# Altium schematic symbol library FPGA_Xilinx_Spartan6.SchLib: 45 symbols (part 2 of 8)
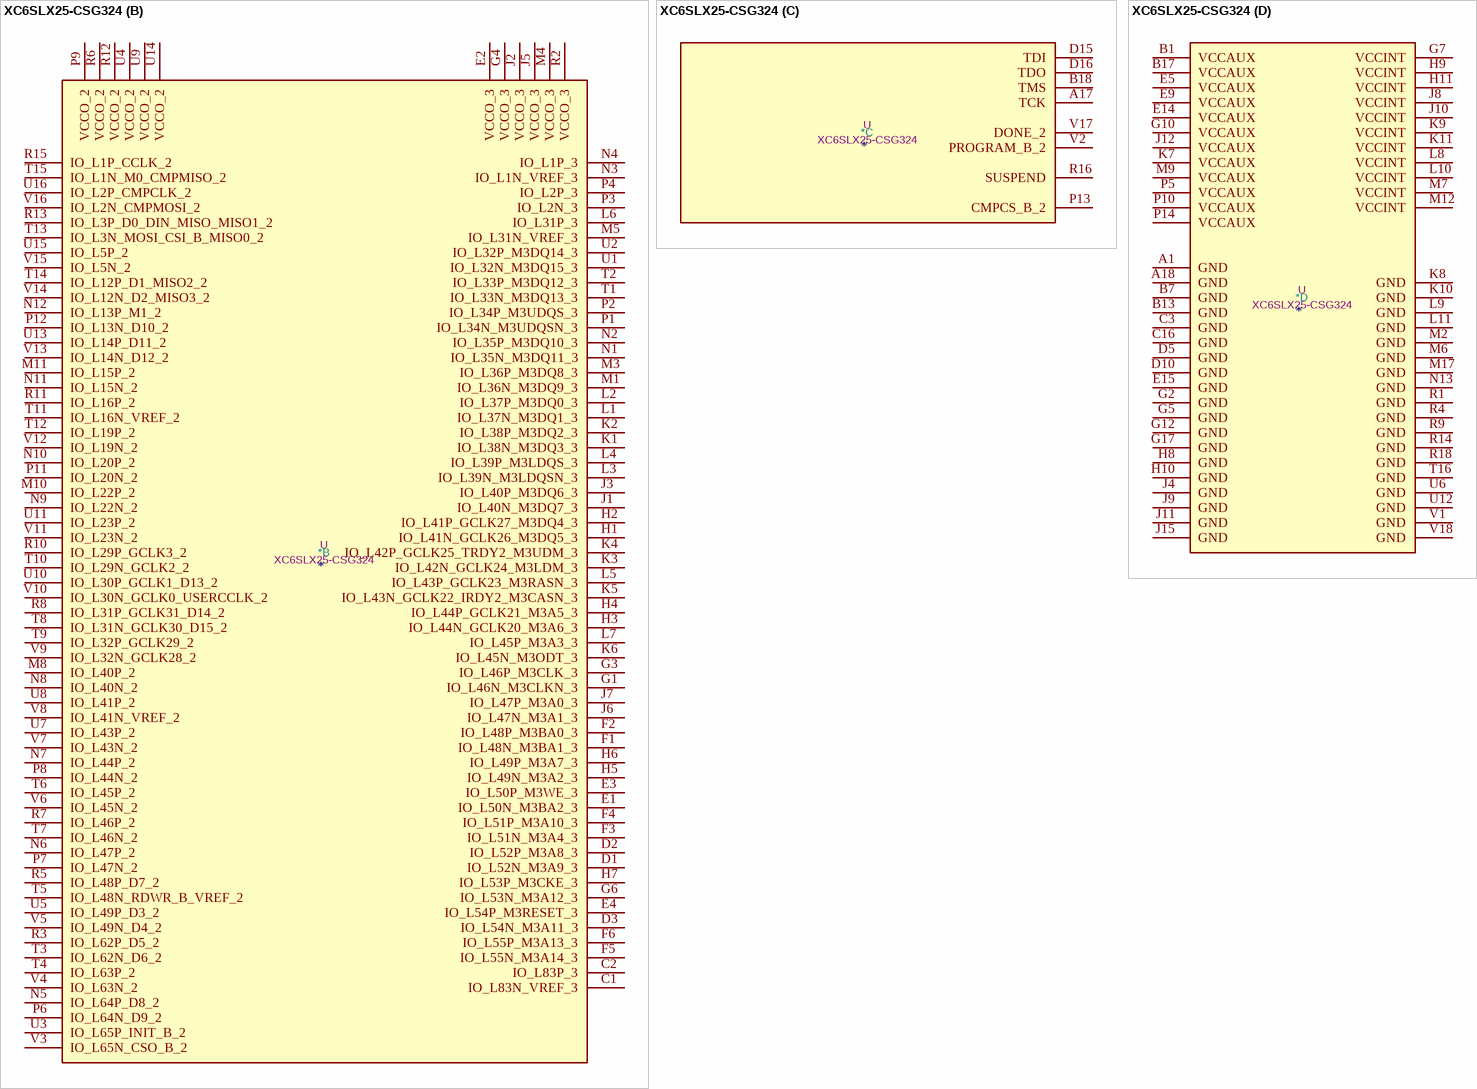
[diagram p63: symbol XC6SLX25-CSG324]

## XC6SLX25-CSG324
designator *  value XC6SLX25-CSG324  Reference: U
Spartan 6 LX 25 XC6SLX25-CSG324; ki_keywords: FPGA; Description_: Spartan 6 LX 25 XC6SLX25-CSG324
part A pins: A2 IO_L2N_0, A3 IO_L4N_0, A4 IO_L5N_0, A5 IO_L6N_0, A6 IO_L8N_VREF_0, A7 IO_L10N_0, A8 IO_L33N_0, A9 IO_L35N_GCLK16_0, A10 IO_L37N_GCLK12_0, A11 IO_L39N_0, A12 IO_L41N_0, A13 IO_L50N_0, A14 IO_L62N_VREF_0, A15 IO_L64N_SCP4_0, A16 IO_L66N_SCP0_0, B2 IO_L2P_0, B3 IO_L4P_0, B4 IO_L5P_0, B5 VCCO_0, B6 IO_L8P_0, B8 IO_L33P_0, B9 IO_L35P_GCLK17_0, B10 VCCO_0, B11 IO_L39P_0, B12 IO_L41P_0, B14 IO_L62P_0, B15 VCCO_0, B16 IO_L66P_SCP1_0, C4 IO_L1N_VREF_0, C5 IO_L6P_0, C6 IO_L3N_0, C7 IO_L10P_0, C8 IO_L11N_0, C9 IO_L34N_GCLK18_0, C10 IO_L37P_GCLK13_0, C11 IO_L36N_GCLK14_0, C12 IO_L47N_0, C13 IO_L50P_0, C14 IO_L65N_SCP2_0, C15 IO_L64P_SCP5_0, C17 IO_L29P_A23_M1A13_1, C18 IO_L29N_A22_M1A14_1, D4 IO_L1P_HSWAPEN_0, D6 IO_L3P_0, D7 VCCO_0, D8 IO_L11P_0, D9 IO_L34P_GCLK19_0, D11 IO_L36P_GCLK15_0, D12 IO_L47P_0, D13 VCCO_0, D14 IO_L65P_SCP3_0, D17 IO_L31P_A19_M1CKE_1, D18 IO_L31N_A18_M1A12_1, E10 VCCO_0, E11 IO_L42N_0, E12 IO_L51N_0, E13 IO_L63N_SCP6_0, E16 IO_L33P_A15_M1A10_1, E17 VCCO_1, E18 IO_L33N_A14_M1A4_1, F9 IO_L38N_VREF_0, F10 IO_L40N_0, F11 IO_L42P_0, F12 IO_L51P_0, F13 IO_L63P_SCP7_0, F14 IO_L30P_A21_M1RESET_1, F15 IO_L1P_A25_1, F16 IO_L1N_A24_VREF_1, F17 IO_L35P_A11_M1A7_1, F18 IO_L35N_A10_M1A2_1, G9 IO_L38P_0, G11 IO_L40P_0, G13 IO_L32N_A16_M1A9_1, G14 IO_L30N_A20_M1A11_1, G15 VCCO_1, G16 IO_L38P_A5_M1CLK_1, G18 IO_L38N_A4_M1CLKN_1, H12 IO_L32P_A17_M1A8_1, H13 IO_L36P_A9_M1BA0_1, H14 IO_L36N_A8_M1BA1_1, H15 IO_L37P_A7_M1A0_1, H16 IO_L37N_A6_M1A1_1, H17 IO_L43P_GCLK5_M1DQ4_1, H18 IO_L43N_GCLK4_M1DQ5_1, J13 IO_L39P_M1A3_1, J14 VCCO_1, J16 IO_L44P_A3_M1DQ6_1, J17 VCCO_1, J18 IO_L44N_A2_M1DQ7_1, K12 IO_L34P_A13_M1WE_1, K13 IO_L34N_A12_M1BA2_1, K14 IO_L39N_M1ODT_1, K15 IO_L41P_GCLK9_IRDY1_M1RASN_1, K16 IO_L41N_GCLK8_M1CASN_1, K17 IO_L45P_A1_M1LDQS_1, K18 IO_L45N_A0_M1LDQSN_1, L12 IO_L40P_GCLK11_M1A5_1, L13 IO_L40N_GCLK10_M1A6_1, L14 IO_L61P_1, L15 IO_L42P_GCLK7_M1UDM_1, L16 IO_L42N_GCLK6_TRDY1_M1LDM_1, L17 IO_L46P_FCS_B_M1DQ2_1, L18 IO_L46N_FOE_B_M1DQ3_1, M13 IO_L61N_1, M14 IO_L53P_1, M15 VCCO_1, M16 IO_L47P_FWE_B_M1DQ0_1, M18 IO_L47N_LDC_M1DQ1_1, N14 IO_L53N_VREF_1, N15 IO_L50P_M1UDQS_1, N16 IO_L50N_M1UDQSN_1, N17 IO_L48P_HDC_M1DQ8_1, N18 IO_L48N_M1DQ9_1, P15 IO_L74P_AWAKE_1, P16 IO_L74N_DOUT_BUSY_1, P17 IO_L49P_M1DQ10_1, P18 IO_L49N_M1DQ11_1, R17 VCCO_1, T17 IO_L51P_M1DQ12_1, T18 IO_L51N_M1DQ13_1, U17 IO_L52P_M1DQ14_1, U18 IO_L52N_M1DQ15_1
part B pins: C1 IO_L83N_VREF_3, C2 IO_L83P_3, D1 IO_L52N_M3A9_3, D2 IO_L52P_M3A8_3, D3 IO_L54N_M3A11_3, E1 IO_L50N_M3BA2_3, E2 VCCO_3, E3 IO_L50P_M3WE_3, E4 IO_L54P_M3RESET_3, F1 IO_L48N_M3BA1_3, F2 IO_L48P_M3BA0_3, F3 IO_L51N_M3A4_3, F4 IO_L51P_M3A10_3, F5 IO_L55N_M3A14_3, F6 IO_L55P_M3A13_3, G1 IO_L46N_M3CLKN_3, G3 IO_L46P_M3CLK_3, G4 VCCO_3, G6 IO_L53N_M3A12_3, H1 IO_L41N_GCLK26_M3DQ5_3, H2 IO_L41P_GCLK27_M3DQ4_3, H3 IO_L44N_GCLK20_M3A6_3, H4 IO_L44P_GCLK21_M3A5_3, H5 IO_L49N_M3A2_3, H6 IO_L49P_M3A7_3, H7 IO_L53P_M3CKE_3, J1 IO_L40N_M3DQ7_3, J2 VCCO_3, J3 IO_L40P_M3DQ6_3, J5 VCCO_3, J6 IO_L47N_M3A1_3, J7 IO_L47P_M3A0_3, K1 IO_L38N_M3DQ3_3, K2 IO_L38P_M3DQ2_3, K3 IO_L42N_GCLK24_M3LDM_3, K4 IO_L42P_GCLK25_TRDY2_M3UDM_3, K5 IO_L43N_GCLK22_IRDY2_M3CASN_3, K6 IO_L45N_M3ODT_3, L1 IO_L37N_M3DQ1_3, L2 IO_L37P_M3DQ0_3, L3 IO_L39N_M3LDQSN_3, L4 IO_L39P_M3LDQS_3, L5 IO_L43P_GCLK23_M3RASN_3, L6 IO_L31P_3, L7 IO_L45P_M3A3_3, M1 IO_L36N_M3DQ9_3, M3 IO_L36P_M3DQ8_3, M4 VCCO_3, M5 IO_L31N_VREF_3, M8 IO_L40P_2, M10 IO_L22P_2, M11 IO_L15P_2, N1 IO_L35N_M3DQ11_3, N2 IO_L35P_M3DQ10_3, N3 IO_L1N_VREF_3, N4 IO_L1P_3, N5 IO_L64P_D8_2, N6 IO_L47P_2, N7 IO_L44P_2, N8 IO_L40N_2, N9 IO_L22N_2, N10 IO_L20P_2, N11 IO_L15N_2, N12 IO_L13P_M1_2, P1 IO_L34N_M3UDQSN_3, P2 IO_L34P_M3UDQS_3, P3 IO_L2N_3, P4 IO_L2P_3, P6 IO_L64N_D9_2, P7 IO_L47N_2, P8 IO_L44N_2, P9 VCCO_2, P11 IO_L20N_2, P12 IO_L13N_D10_2, R2 VCCO_3, R3 IO_L62P_D5_2, R5 IO_L48P_D7_2, R6 VCCO_2, R7 IO_L46P_2, R8 IO_L31P_GCLK31_D14_2, R10 IO_L29P_GCLK3_2, R11 IO_L16P_2, R12 VCCO_2, R13 IO_L3P_D0_DIN_MISO_MISO1_2, R15 IO_L1P_CCLK_2, T1 IO_L33N_M3DQ13_3, T2 IO_L33P_M3DQ12_3, T3 IO_L62N_D6_2, T4 IO_L63P_2, T5 IO_L48N_RDWR_B_VREF_2, T6 IO_L45P_2, T7 IO_L46N_2, T8 IO_L31N_GCLK30_D15_2, T9 IO_L32P_GCLK29_2, T10 IO_L29N_GCLK2_2, T11 IO_L16N_VREF_2, T12 IO_L19P_2, T13 IO_L3N_MOSI_CSI_B_MISO0_2, T14 IO_L12P_D1_MISO2_2, T15 IO_L1N_M0_CMPMISO_2, U1 IO_L32N_M3DQ15_3, U2 IO_L32P_M3DQ14_3, U3 IO_L65P_INIT_B_2, U4 VCCO_2, U5 IO_L49P_D3_2, U7 IO_L43P_2, U8 IO_L41P_2, U9 VCCO_2, U10 IO_L30P_GCLK1_D13_2, U11 IO_L23P_2, U13 IO_L14P_D11_2, U14 VCCO_2, U15 IO_L5P_2, U16 IO_L2P_CMPCLK_2, V3 IO_L65N_CSO_B_2, V4 IO_L63N_2, V5 IO_L49N_D4_2, V6 IO_L45N_2, V7 IO_L43N_2, V8 IO_L41N_VREF_2, V9 IO_L32N_GCLK28_2, V10 IO_L30N_GCLK0_USERCCLK_2, V11 IO_L23N_2, V12 IO_L19N_2, V13 IO_L14N_D12_2, V14 IO_L12N_D2_MISO3_2, V15 IO_L5N_2, V16 IO_L2N_CMPMOSI_2
part C pins: A17 TCK, B18 TMS, D15 TDI, D16 TDO, P13 CMPCS_B_2, R16 SUSPEND, V2 PROGRAM_B_2, V17 DONE_2
part D pins: A1 GND, A18 GND, B1 VCCAUX, B7 GND, B13 GND, B17 VCCAUX, C3 GND, C16 GND, D5 GND, D10 GND, E5 VCCAUX, E9 VCCAUX, E14 VCCAUX, E15 GND, G2 GND, G5 GND, G7 VCCINT, G10 VCCAUX, G12 GND, G17 GND, H8 GND, H9 VCCINT, H10 GND, H11 VCCINT, J4 GND, J8 VCCINT, J9 GND, J10 VCCINT, J11 GND, J12 VCCAUX, J15 GND, K7 VCCAUX, K8 GND, K9 VCCINT, K10 GND, K11 VCCINT, L8 VCCINT, L9 GND, L10 VCCINT, L11 GND, M2 GND, M6 GND, M7 VCCINT, M9 VCCAUX, M12 VCCINT, M17 GND, N13 GND, P5 VCCAUX, P10 VCCAUX, P14 VCCAUX, R1 GND, R4 GND, R9 GND, R14 GND, R18 GND, T16 GND, U6 GND, U12 GND, V1 GND, V18 GND

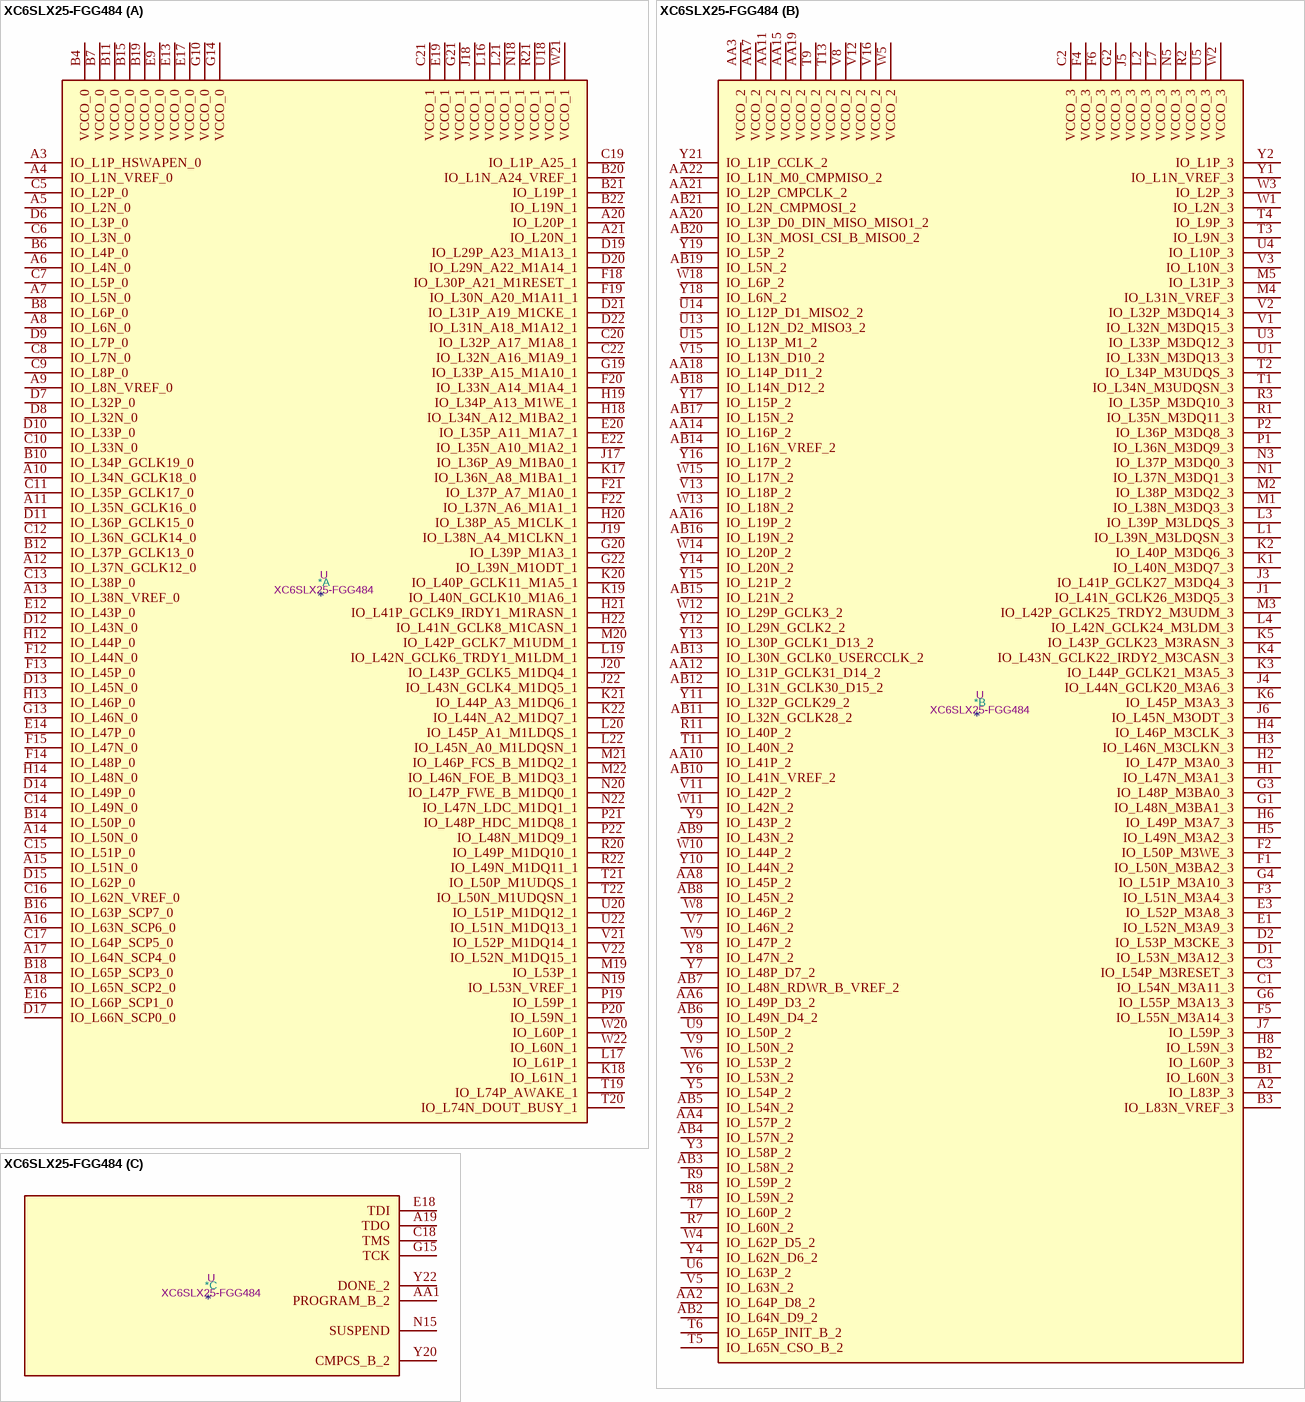
[diagram p11: symbol XC6SLX25-FGG484]

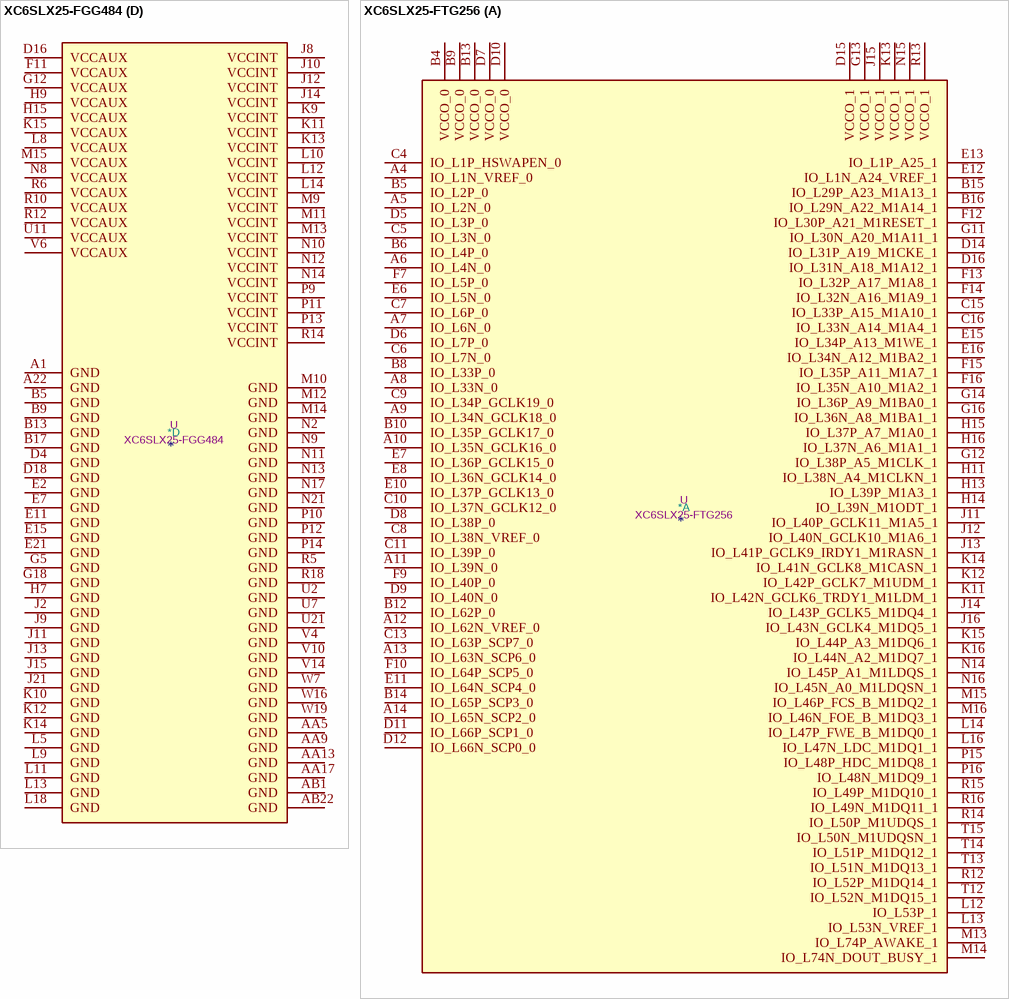
[diagram p12: symbols XC6SLX25-FGG484 to XC6SLX25-FTG256]

## XC6SLX25-FGG484
designator *  value XC6SLX25-FGG484  Reference: U
Spartan 6 LX 25 XC6SLX25-FGG484; ki_keywords: FPGA; Description_: Spartan 6 LX 25 XC6SLX25-FGG484
part A pins: A3 IO_L1P_HSWAPEN_0, A4 IO_L1N_VREF_0, A5 IO_L2N_0, A6 IO_L4N_0, A7 IO_L5N_0, A8 IO_L6N_0, A9 IO_L8N_VREF_0, A10 IO_L34N_GCLK18_0, A11 IO_L35N_GCLK16_0, A12 IO_L37N_GCLK12_0, A13 IO_L38N_VREF_0, A14 IO_L50N_0, A15 IO_L51N_0, A16 IO_L63N_SCP6_0, A17 IO_L64N_SCP4_0, A18 IO_L65N_SCP2_0, A20 IO_L20P_1, A21 IO_L20N_1, B4 VCCO_0, B6 IO_L4P_0, B7 VCCO_0, B8 IO_L6P_0, B10 IO_L34P_GCLK19_0, B11 VCCO_0, B12 IO_L37P_GCLK13_0, B14 IO_L50P_0, B15 VCCO_0, B16 IO_L63P_SCP7_0, B18 IO_L65P_SCP3_0, B19 VCCO_0, B20 IO_L1N_A24_VREF_1, B21 IO_L19P_1, B22 IO_L19N_1, C5 IO_L2P_0, C6 IO_L3N_0, C7 IO_L5P_0, C8 IO_L7N_0, C9 IO_L8P_0, C10 IO_L33N_0, C11 IO_L35P_GCLK17_0, C12 IO_L36N_GCLK14_0, C13 IO_L38P_0, C14 IO_L49N_0, C15 IO_L51P_0, C16 IO_L62N_VREF_0, C17 IO_L64P_SCP5_0, C19 IO_L1P_A25_1, C20 IO_L32P_A17_M1A8_1, C21 VCCO_1, C22 IO_L32N_A16_M1A9_1, D6 IO_L3P_0, D7 IO_L32P_0, D8 IO_L32N_0, D9 IO_L7P_0, D10 IO_L33P_0, D11 IO_L36P_GCLK15_0, D12 IO_L43N_0, D13 IO_L45N_0, D14 IO_L49P_0, D15 IO_L62P_0, D17 IO_L66N_SCP0_0, D19 IO_L29P_A23_M1A13_1, D20 IO_L29N_A22_M1A14_1, D21 IO_L31P_A19_M1CKE_1, D22 IO_L31N_A18_M1A12_1, E9 VCCO_0, E12 IO_L43P_0, E13 VCCO_0, E14 IO_L47P_0, E16 IO_L66P_SCP1_0, E17 VCCO_0, E19 VCCO_1, E20 IO_L35P_A11_M1A7_1, E22 IO_L35N_A10_M1A2_1, F12 IO_L44N_0, F13 IO_L45P_0, F14 IO_L48P_0, F15 IO_L47N_0, F18 IO_L30P_A21_M1RESET_1, F19 IO_L30N_A20_M1A11_1, F20 IO_L33N_A14_M1A4_1, F21 IO_L37P_A7_M1A0_1, F22 IO_L37N_A6_M1A1_1, G10 VCCO_0, G13 IO_L46N_0, G14 VCCO_0, G19 IO_L33P_A15_M1A10_1, G20 IO_L39P_M1A3_1, G21 VCCO_1, G22 IO_L39N_M1ODT_1, H12 IO_L44P_0, H13 IO_L46P_0, H14 IO_L48N_0, H18 IO_L34N_A12_M1BA2_1, H19 IO_L34P_A13_M1WE_1, H20 IO_L38P_A5_M1CLK_1, H21 IO_L41P_GCLK9_IRDY1_M1RASN_1, H22 IO_L41N_GCLK8_M1CASN_1, J17 IO_L36P_A9_M1BA0_1, J18 VCCO_1, J19 IO_L38N_A4_M1CLKN_1, J20 IO_L43P_GCLK5_M1DQ4_1, J22 IO_L43N_GCLK4_M1DQ5_1, K17 IO_L36N_A8_M1BA1_1, K18 IO_L61N_1, K19 IO_L40N_GCLK10_M1A6_1, K20 IO_L40P_GCLK11_M1A5_1, K21 IO_L44P_A3_M1DQ6_1, K22 IO_L44N_A2_M1DQ7_1, L16 VCCO_1, L17 IO_L61P_1, L19 IO_L42N_GCLK6_TRDY1_M1LDM_1, L20 IO_L45P_A1_M1LDQS_1, L21 VCCO_1, L22 IO_L45N_A0_M1LDQSN_1, M19 IO_L53P_1, M20 IO_L42P_GCLK7_M1UDM_1, M21 IO_L46P_FCS_B_M1DQ2_1, M22 IO_L46N_FOE_B_M1DQ3_1, N18 VCCO_1, N19 IO_L53N_VREF_1, N20 IO_L47P_FWE_B_M1DQ0_1, N22 IO_L47N_LDC_M1DQ1_1, P19 IO_L59P_1, P20 IO_L59N_1, P21 IO_L48P_HDC_M1DQ8_1, P22 IO_L48N_M1DQ9_1, R20 IO_L49P_M1DQ10_1, R21 VCCO_1, R22 IO_L49N_M1DQ11_1, T19 IO_L74P_AWAKE_1, T20 IO_L74N_DOUT_BUSY_1, T21 IO_L50P_M1UDQS_1, T22 IO_L50N_M1UDQSN_1, U18 VCCO_1, U20 IO_L51P_M1DQ12_1, U22 IO_L51N_M1DQ13_1, V21 IO_L52P_M1DQ14_1, V22 IO_L52N_M1DQ15_1, W20 IO_L60P_1, W21 VCCO_1, W22 IO_L60N_1
part B pins: A2 IO_L83P_3, AA2 IO_L64P_D8_2, AA3 VCCO_2, AA4 IO_L57P_2, AA6 IO_L49P_D3_2, AA7 VCCO_2, AA8 IO_L45P_2, AA10 IO_L41P_2, AA11 VCCO_2, AA12 IO_L31P_GCLK31_D14_2, AA14 IO_L16P_2, AA15 VCCO_2, AA16 IO_L19P_2, AA18 IO_L14P_D11_2, AA19 VCCO_2, AA20 IO_L3P_D0_DIN_MISO_MISO1_2, AA21 IO_L2P_CMPCLK_2, AA22 IO_L1N_M0_CMPMISO_2, AB2 IO_L64N_D9_2, AB3 IO_L58N_2, AB4 IO_L57N_2, AB5 IO_L54N_2, AB6 IO_L49N_D4_2, AB7 IO_L48N_RDWR_B_VREF_2, AB8 IO_L45N_2, AB9 IO_L43N_2, AB10 IO_L41N_VREF_2, AB11 IO_L32N_GCLK28_2, AB12 IO_L31N_GCLK30_D15_2, AB13 IO_L30N_GCLK0_USERCCLK_2, AB14 IO_L16N_VREF_2, AB15 IO_L21N_2, AB16 IO_L19N_2, AB17 IO_L15N_2, AB18 IO_L14N_D12_2, AB19 IO_L5N_2, AB20 IO_L3N_MOSI_CSI_B_MISO0_2, AB21 IO_L2N_CMPMOSI_2, B1 IO_L60N_3, B2 IO_L60P_3, B3 IO_L83N_VREF_3, C1 IO_L54N_M3A11_3, C2 VCCO_3, C3 IO_L54P_M3RESET_3, D1 IO_L53N_M3A12_3, D2 IO_L53P_M3CKE_3, E1 IO_L52N_M3A9_3, E3 IO_L52P_M3A8_3, F1 IO_L50N_M3BA2_3, F2 IO_L50P_M3WE_3, F3 IO_L51N_M3A4_3, F4 VCCO_3, F5 IO_L55N_M3A14_3, F6 VCCO_3, G1 IO_L48N_M3BA1_3, G2 VCCO_3, G3 IO_L48P_M3BA0_3, G4 IO_L51P_M3A10_3, G6 IO_L55P_M3A13_3, H1 IO_L47N_M3A1_3, H2 IO_L47P_M3A0_3, H3 IO_L46N_M3CLKN_3, H4 IO_L46P_M3CLK_3, H5 IO_L49N_M3A2_3, H6 IO_L49P_M3A7_3, H8 IO_L59N_3, J1 IO_L41N_GCLK26_M3DQ5_3, J3 IO_L41P_GCLK27_M3DQ4_3, J4 IO_L44N_GCLK20_M3A6_3, J5 VCCO_3, J6 IO_L45N_M3ODT_3, J7 IO_L59P_3, K1 IO_L40N_M3DQ7_3, K2 IO_L40P_M3DQ6_3, K3 IO_L44P_GCLK21_M3A5_3, K4 IO_L43N_GCLK22_IRDY2_M3CASN_3, K5 IO_L43P_GCLK23_M3RASN_3, K6 IO_L45P_M3A3_3, L1 IO_L39N_M3LDQSN_3, L2 VCCO_3, L3 IO_L39P_M3LDQS_3, L4 IO_L42N_GCLK24_M3LDM_3, L7 VCCO_3, M1 IO_L38N_M3DQ3_3, M2 IO_L38P_M3DQ2_3, M3 IO_L42P_GCLK25_TRDY2_M3UDM_3, M4 IO_L31N_VREF_3, M5 IO_L31P_3, N1 IO_L37N_M3DQ1_3, N3 IO_L37P_M3DQ0_3, N5 VCCO_3, P1 IO_L36N_M3DQ9_3, P2 IO_L36P_M3DQ8_3, R1 IO_L35N_M3DQ11_3, R2 VCCO_3, R3 IO_L35P_M3DQ10_3, R7 IO_L60N_2, R8 IO_L59N_2, R9 IO_L59P_2, R11 IO_L40P_2, T1 IO_L34N_M3UDQSN_3, T2 IO_L34P_M3UDQS_3, T3 IO_L9N_3, T4 IO_L9P_3, T5 IO_L65N_CSO_B_2, T6 IO_L65P_INIT_B_2, T7 IO_L60P_2, T9 VCCO_2, T11 IO_L40N_2, T13 VCCO_2, U1 IO_L33N_M3DQ13_3, U3 IO_L33P_M3DQ12_3, U4 IO_L10P_3, U5 VCCO_3, U6 IO_L63P_2, U9 IO_L50P_2, U13 IO_L12N_D2_MISO3_2, U14 IO_L12P_D1_MISO2_2, U15 IO_L13P_M1_2, V1 IO_L32N_M3DQ15_3, V2 IO_L32P_M3DQ14_3, V3 IO_L10N_3, V5 IO_L63N_2, V7 IO_L46N_2, V8 VCCO_2, V9 IO_L50N_2, V11 IO_L42P_2, V12 VCCO_2, V13 IO_L18P_2, V15 IO_L13N_D10_2, V16 VCCO_2, W1 IO_L2N_3, W2 VCCO_3, W3 IO_L2P_3, W4 IO_L62P_D5_2, W5 VCCO_2, W6 IO_L53P_2, W8 IO_L46P_2, W9 IO_L47P_2, W10 IO_L44P_2, W11 IO_L42N_2, W12 IO_L29P_GCLK3_2, W13 IO_L18N_2, W14 IO_L20P_2, W15 IO_L17N_2, W18 IO_L6P_2, Y1 IO_L1N_VREF_3, Y2 IO_L1P_3, Y3 IO_L58P_2, Y4 IO_L62N_D6_2, Y5 IO_L54P_2, Y6 IO_L53N_2, Y7 IO_L48P_D7_2, Y8 IO_L47N_2, Y9 IO_L43P_2, Y10 IO_L44N_2, Y11 IO_L32P_GCLK29_2, Y12 IO_L29N_GCLK2_2, Y13 IO_L30P_GCLK1_D13_2, Y14 IO_L20N_2, Y15 IO_L21P_2, Y16 IO_L17P_2, Y17 IO_L15P_2, Y18 IO_L6N_2, Y19 IO_L5P_2, Y21 IO_L1P_CCLK_2
part C pins: A19 TDO, AA1 PROGRAM_B_2, C18 TMS, E18 TDI, G15 TCK, N15 SUSPEND, Y20 CMPCS_B_2, Y22 DONE_2
part D pins: A1 GND, A22 GND, AA5 GND, AA9 GND, AA13 GND, AA17 GND, AB1 GND, AB22 GND, B5 GND, B9 GND, B13 GND, B17 GND, D4 GND, D16 VCCAUX, D18 GND, E2 GND, E7 GND, E11 GND, E15 GND, E21 GND, F11 VCCAUX, G5 GND, G12 VCCAUX, G18 GND, H7 GND, H9 VCCAUX, H15 VCCAUX, J2 GND, J8 VCCINT, J9 GND, J10 VCCINT, J11 GND, J12 VCCINT, J13 GND, J14 VCCINT, J15 GND, J21 GND, K9 VCCINT, K10 GND, K11 VCCINT, K12 GND, K13 VCCINT, K14 GND, K15 VCCAUX, L5 GND, L8 VCCAUX, L9 GND, L10 VCCINT, L11 GND, L12 VCCINT, L13 GND, L14 VCCINT, L18 GND, M9 VCCINT, M10 GND, M11 VCCINT, M12 GND, M13 VCCINT, M14 GND, M15 VCCAUX, N2 GND, N8 VCCAUX, N9 GND, N10 VCCINT, N11 GND, N12 VCCINT, N13 GND, N14 VCCINT, N17 GND, N21 GND, P9 VCCINT, P10 GND, P11 VCCINT, P12 GND, P13 VCCINT, P14 GND, R5 GND, R6 VCCAUX, R10 VCCAUX, R12 VCCAUX, R14 VCCINT, R18 GND, U2 GND, U7 GND, U11 VCCAUX, U21 GND, V4 GND, V6 VCCAUX, V10 GND, V14 GND, W7 GND, W16 GND, W19 GND

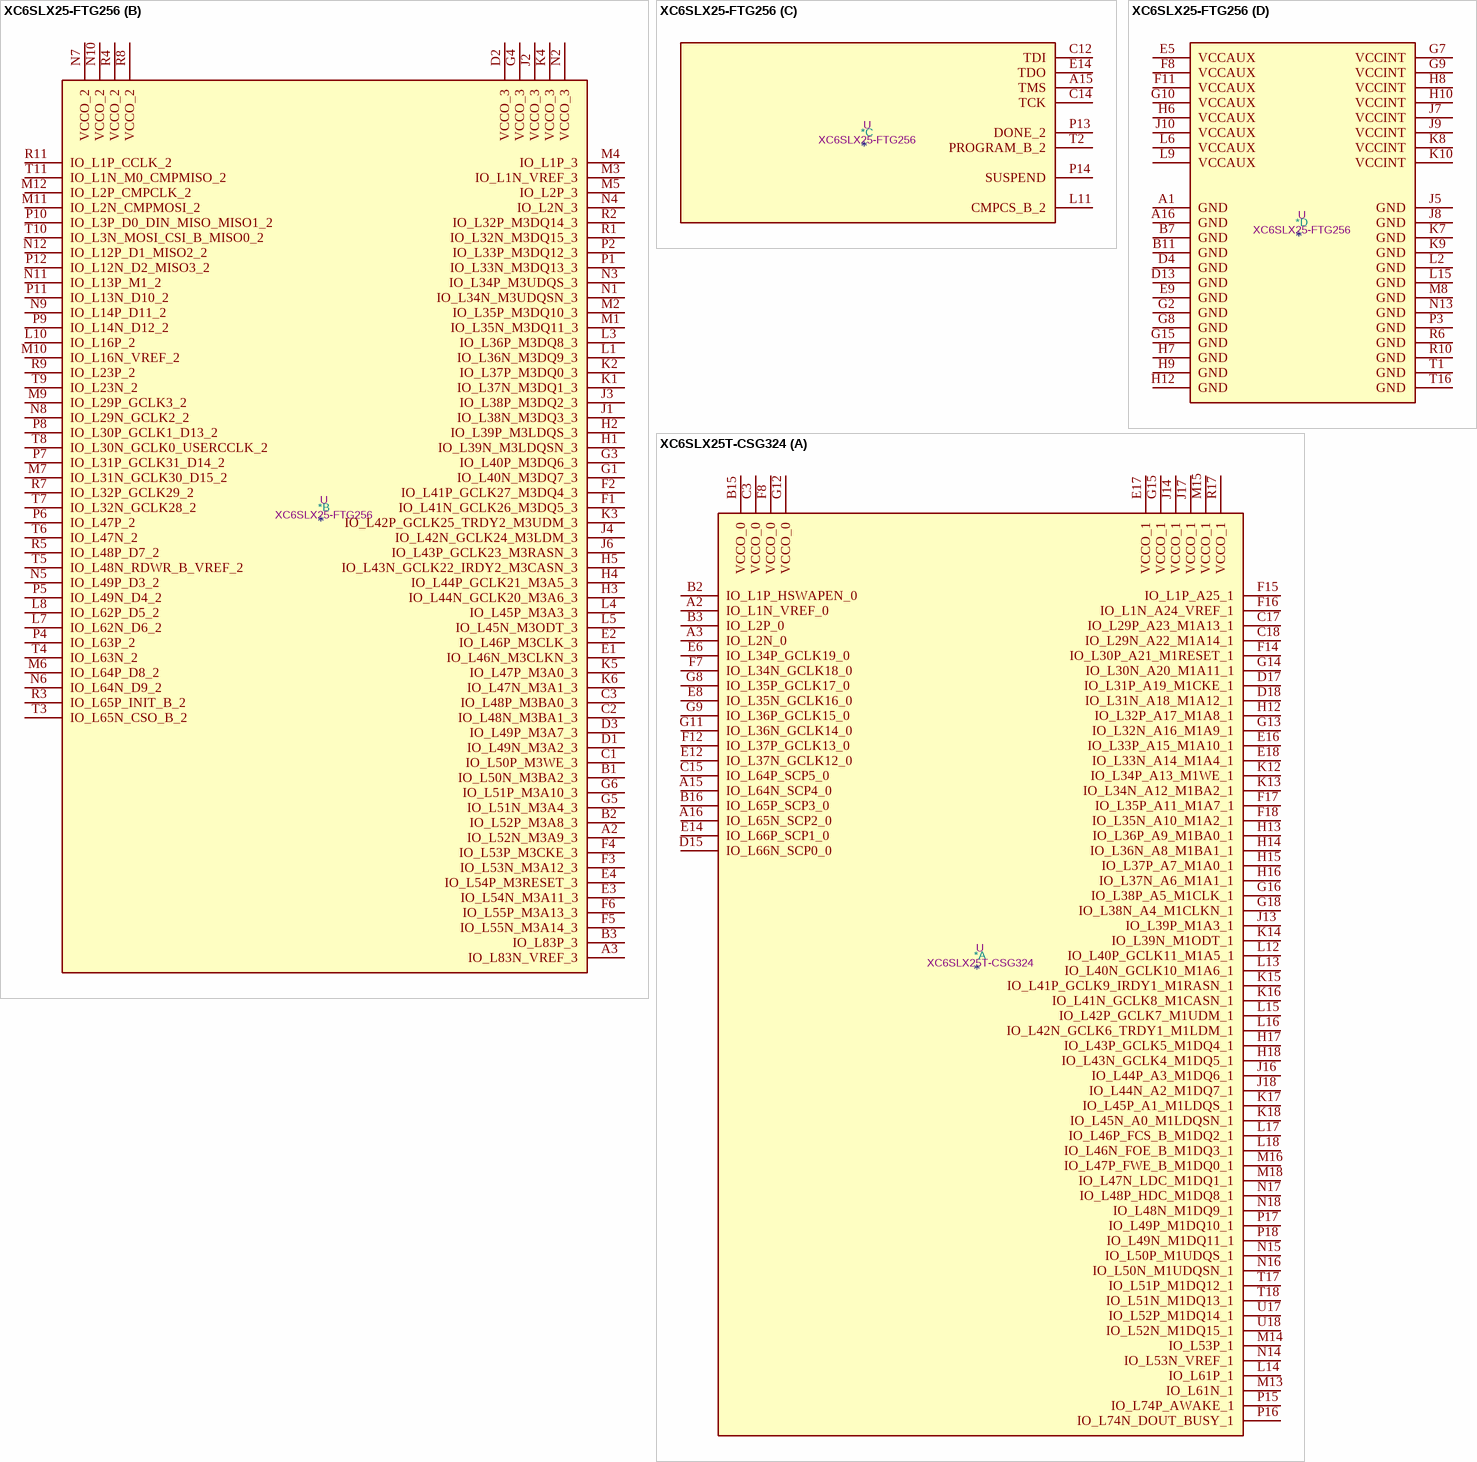
[diagram p13: symbols XC6SLX25-FTG256 to XC6SLX25T-CSG324]

## XC6SLX25-FTG256
designator *  value XC6SLX25-FTG256  Reference: U
Spartan 6 LX 25 XC6SLX25-FTG256; ki_keywords: FPGA; Description_: Spartan 6 LX 25 XC6SLX25-FTG256
part A pins: A4 IO_L1N_VREF_0, A5 IO_L2N_0, A6 IO_L4N_0, A7 IO_L6N_0, A8 IO_L33N_0, A9 IO_L34N_GCLK18_0, A10 IO_L35N_GCLK16_0, A11 IO_L39N_0, A12 IO_L62N_VREF_0, A13 IO_L63N_SCP6_0, A14 IO_L65N_SCP2_0, B4 VCCO_0, B5 IO_L2P_0, B6 IO_L4P_0, B8 IO_L33P_0, B9 VCCO_0, B10 IO_L35P_GCLK17_0, B12 IO_L62P_0, B13 VCCO_0, B14 IO_L65P_SCP3_0, B15 IO_L29P_A23_M1A13_1, B16 IO_L29N_A22_M1A14_1, C4 IO_L1P_HSWAPEN_0, C5 IO_L3N_0, C6 IO_L7N_0, C7 IO_L6P_0, C8 IO_L38N_VREF_0, C9 IO_L34P_GCLK19_0, C10 IO_L37N_GCLK12_0, C11 IO_L39P_0, C13 IO_L63P_SCP7_0, C15 IO_L33P_A15_M1A10_1, C16 IO_L33N_A14_M1A4_1, D5 IO_L3P_0, D6 IO_L7P_0, D7 VCCO_0, D8 IO_L38P_0, D9 IO_L40N_0, D10 VCCO_0, D11 IO_L66P_SCP1_0, D12 IO_L66N_SCP0_0, D14 IO_L31P_A19_M1CKE_1, D15 VCCO_1, D16 IO_L31N_A18_M1A12_1, E6 IO_L5N_0, E7 IO_L36P_GCLK15_0, E8 IO_L36N_GCLK14_0, E10 IO_L37P_GCLK13_0, E11 IO_L64N_SCP4_0, E12 IO_L1N_A24_VREF_1, E13 IO_L1P_A25_1, E15 IO_L34P_A13_M1WE_1, E16 IO_L34N_A12_M1BA2_1, F7 IO_L5P_0, F9 IO_L40P_0, F10 IO_L64P_SCP5_0, F12 IO_L30P_A21_M1RESET_1, F13 IO_L32P_A17_M1A8_1, F14 IO_L32N_A16_M1A9_1, F15 IO_L35P_A11_M1A7_1, F16 IO_L35N_A10_M1A2_1, G11 IO_L30N_A20_M1A11_1, G12 IO_L38P_A5_M1CLK_1, G13 VCCO_1, G14 IO_L36P_A9_M1BA0_1, G16 IO_L36N_A8_M1BA1_1, H11 IO_L38N_A4_M1CLKN_1, H13 IO_L39P_M1A3_1, H14 IO_L39N_M1ODT_1, H15 IO_L37P_A7_M1A0_1, H16 IO_L37N_A6_M1A1_1, J11 IO_L40P_GCLK11_M1A5_1, J12 IO_L40N_GCLK10_M1A6_1, J13 IO_L41P_GCLK9_IRDY1_M1RASN_1, J14 IO_L43P_GCLK5_M1DQ4_1, J15 VCCO_1, J16 IO_L43N_GCLK4_M1DQ5_1, K11 IO_L42N_GCLK6_TRDY1_M1LDM_1, K12 IO_L42P_GCLK7_M1UDM_1, K13 VCCO_1, K14 IO_L41N_GCLK8_M1CASN_1, K15 IO_L44P_A3_M1DQ6_1, K16 IO_L44N_A2_M1DQ7_1, L12 IO_L53P_1, L13 IO_L53N_VREF_1, L14 IO_L47P_FWE_B_M1DQ0_1, L16 IO_L47N_LDC_M1DQ1_1, M13 IO_L74P_AWAKE_1, M14 IO_L74N_DOUT_BUSY_1, M15 IO_L46P_FCS_B_M1DQ2_1, M16 IO_L46N_FOE_B_M1DQ3_1, N14 IO_L45P_A1_M1LDQS_1, N15 VCCO_1, N16 IO_L45N_A0_M1LDQSN_1, P15 IO_L48P_HDC_M1DQ8_1, P16 IO_L48N_M1DQ9_1, R12 IO_L52P_M1DQ14_1, R13 VCCO_1, R14 IO_L50P_M1UDQS_1, R15 IO_L49P_M1DQ10_1, R16 IO_L49N_M1DQ11_1, T12 IO_L52N_M1DQ15_1, T13 IO_L51N_M1DQ13_1, T14 IO_L51P_M1DQ12_1, T15 IO_L50N_M1UDQSN_1
part B pins: A2 IO_L52N_M3A9_3, A3 IO_L83N_VREF_3, B1 IO_L50N_M3BA2_3, B2 IO_L52P_M3A8_3, B3 IO_L83P_3, C1 IO_L50P_M3WE_3, C2 IO_L48N_M3BA1_3, C3 IO_L48P_M3BA0_3, D1 IO_L49N_M3A2_3, D2 VCCO_3, D3 IO_L49P_M3A7_3, E1 IO_L46N_M3CLKN_3, E2 IO_L46P_M3CLK_3, E3 IO_L54N_M3A11_3, E4 IO_L54P_M3RESET_3, F1 IO_L41N_GCLK26_M3DQ5_3, F2 IO_L41P_GCLK27_M3DQ4_3, F3 IO_L53N_M3A12_3, F4 IO_L53P_M3CKE_3, F5 IO_L55N_M3A14_3, F6 IO_L55P_M3A13_3, G1 IO_L40N_M3DQ7_3, G3 IO_L40P_M3DQ6_3, G4 VCCO_3, G5 IO_L51N_M3A4_3, G6 IO_L51P_M3A10_3, H1 IO_L39N_M3LDQSN_3, H2 IO_L39P_M3LDQS_3, H3 IO_L44N_GCLK20_M3A6_3, H4 IO_L44P_GCLK21_M3A5_3, H5 IO_L43N_GCLK22_IRDY2_M3CASN_3, J1 IO_L38N_M3DQ3_3, J2 VCCO_3, J3 IO_L38P_M3DQ2_3, J4 IO_L42N_GCLK24_M3LDM_3, J6 IO_L43P_GCLK23_M3RASN_3, K1 IO_L37N_M3DQ1_3, K2 IO_L37P_M3DQ0_3, K3 IO_L42P_GCLK25_TRDY2_M3UDM_3, K4 VCCO_3, K5 IO_L47P_M3A0_3, K6 IO_L47N_M3A1_3, L1 IO_L36N_M3DQ9_3, L3 IO_L36P_M3DQ8_3, L4 IO_L45P_M3A3_3, L5 IO_L45N_M3ODT_3, L7 IO_L62N_D6_2, L8 IO_L62P_D5_2, L10 IO_L16P_2, M1 IO_L35N_M3DQ11_3, M2 IO_L35P_M3DQ10_3, M3 IO_L1N_VREF_3, M4 IO_L1P_3, M5 IO_L2P_3, M6 IO_L64P_D8_2, M7 IO_L31N_GCLK30_D15_2, M9 IO_L29P_GCLK3_2, M10 IO_L16N_VREF_2, M11 IO_L2N_CMPMOSI_2, M12 IO_L2P_CMPCLK_2, N1 IO_L34N_M3UDQSN_3, N2 VCCO_3, N3 IO_L34P_M3UDQS_3, N4 IO_L2N_3, N5 IO_L49P_D3_2, N6 IO_L64N_D9_2, N7 VCCO_2, N8 IO_L29N_GCLK2_2, N9 IO_L14P_D11_2, N10 VCCO_2, N11 IO_L13P_M1_2, N12 IO_L12P_D1_MISO2_2, P1 IO_L33N_M3DQ13_3, P2 IO_L33P_M3DQ12_3, P4 IO_L63P_2, P5 IO_L49N_D4_2, P6 IO_L47P_2, P7 IO_L31P_GCLK31_D14_2, P8 IO_L30P_GCLK1_D13_2, P9 IO_L14N_D12_2, P10 IO_L3P_D0_DIN_MISO_MISO1_2, P11 IO_L13N_D10_2, P12 IO_L12N_D2_MISO3_2, R1 IO_L32N_M3DQ15_3, R2 IO_L32P_M3DQ14_3, R3 IO_L65P_INIT_B_2, R4 VCCO_2, R5 IO_L48P_D7_2, R7 IO_L32P_GCLK29_2, R8 VCCO_2, R9 IO_L23P_2, R11 IO_L1P_CCLK_2, T3 IO_L65N_CSO_B_2, T4 IO_L63N_2, T5 IO_L48N_RDWR_B_VREF_2, T6 IO_L47N_2, T7 IO_L32N_GCLK28_2, T8 IO_L30N_GCLK0_USERCCLK_2, T9 IO_L23N_2, T10 IO_L3N_MOSI_CSI_B_MISO0_2, T11 IO_L1N_M0_CMPMISO_2
part C pins: A15 TMS, C12 TDI, C14 TCK, E14 TDO, L11 CMPCS_B_2, P13 DONE_2, P14 SUSPEND, T2 PROGRAM_B_2
part D pins: A1 GND, A16 GND, B7 GND, B11 GND, D4 GND, D13 GND, E5 VCCAUX, E9 GND, F8 VCCAUX, F11 VCCAUX, G2 GND, G7 VCCINT, G8 GND, G9 VCCINT, G10 VCCAUX, G15 GND, H6 VCCAUX, H7 GND, H8 VCCINT, H9 GND, H10 VCCINT, H12 GND, J5 GND, J7 VCCINT, J8 GND, J9 VCCINT, J10 VCCAUX, K7 GND, K8 VCCINT, K9 GND, K10 VCCINT, L2 GND, L6 VCCAUX, L9 VCCAUX, L15 GND, M8 GND, N13 GND, P3 GND, R6 GND, R10 GND, T1 GND, T16 GND

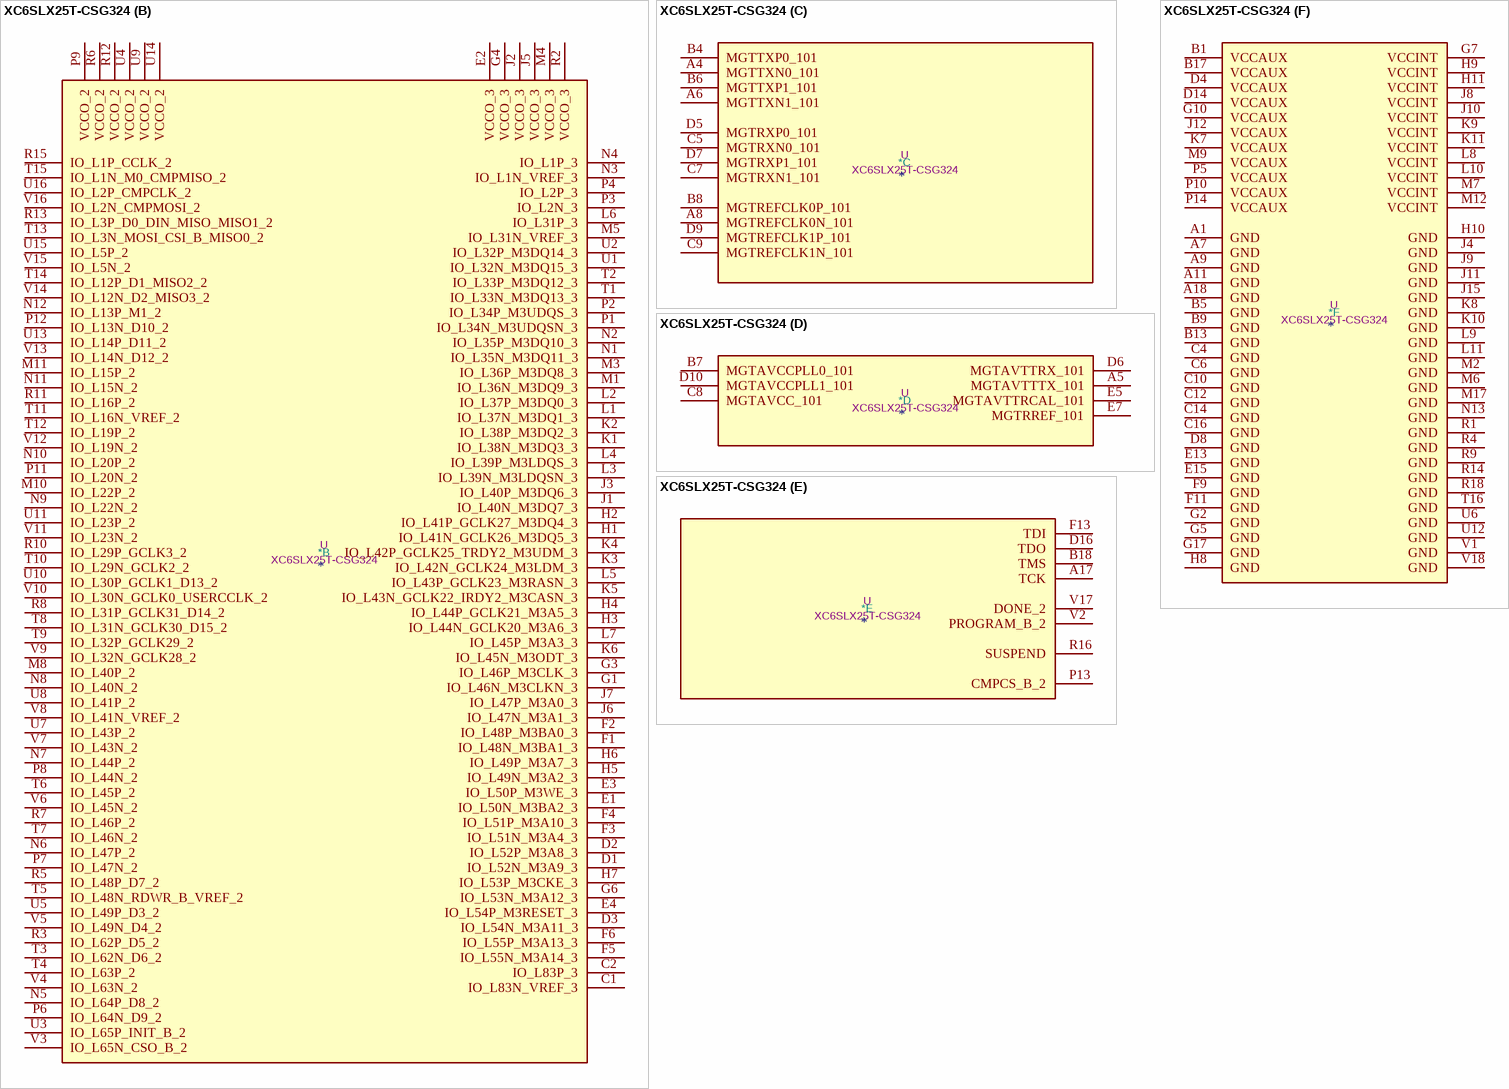
[diagram p14: symbol XC6SLX25T-CSG324]

## XC6SLX25T-CSG324
designator *  value XC6SLX25T-CSG324  Reference: U
Spartan 6 LXT 25 XC6SLX25T-CSG324; ki_keywords: FPGA; Description_: Spartan 6 LXT 25 XC6SLX25T-CSG324
part A pins: A2 IO_L1N_VREF_0, A3 IO_L2N_0, A15 IO_L64N_SCP4_0, A16 IO_L65N_SCP2_0, B2 IO_L1P_HSWAPEN_0, B3 IO_L2P_0, B15 VCCO_0, B16 IO_L65P_SCP3_0, C3 VCCO_0, C15 IO_L64P_SCP5_0, C17 IO_L29P_A23_M1A13_1, C18 IO_L29N_A22_M1A14_1, D15 IO_L66N_SCP0_0, D17 IO_L31P_A19_M1CKE_1, D18 IO_L31N_A18_M1A12_1, E6 IO_L34P_GCLK19_0, E8 IO_L35N_GCLK16_0, E12 IO_L37N_GCLK12_0, E14 IO_L66P_SCP1_0, E16 IO_L33P_A15_M1A10_1, E17 VCCO_1, E18 IO_L33N_A14_M1A4_1, F7 IO_L34N_GCLK18_0, F8 VCCO_0, F12 IO_L37P_GCLK13_0, F14 IO_L30P_A21_M1RESET_1, F15 IO_L1P_A25_1, F16 IO_L1N_A24_VREF_1, F17 IO_L35P_A11_M1A7_1, F18 IO_L35N_A10_M1A2_1, G8 IO_L35P_GCLK17_0, G9 IO_L36P_GCLK15_0, G11 IO_L36N_GCLK14_0, G12 VCCO_0, G13 IO_L32N_A16_M1A9_1, G14 IO_L30N_A20_M1A11_1, G15 VCCO_1, G16 IO_L38P_A5_M1CLK_1, G18 IO_L38N_A4_M1CLKN_1, H12 IO_L32P_A17_M1A8_1, H13 IO_L36P_A9_M1BA0_1, H14 IO_L36N_A8_M1BA1_1, H15 IO_L37P_A7_M1A0_1, H16 IO_L37N_A6_M1A1_1, H17 IO_L43P_GCLK5_M1DQ4_1, H18 IO_L43N_GCLK4_M1DQ5_1, J13 IO_L39P_M1A3_1, J14 VCCO_1, J16 IO_L44P_A3_M1DQ6_1, J17 VCCO_1, J18 IO_L44N_A2_M1DQ7_1, K12 IO_L34P_A13_M1WE_1, K13 IO_L34N_A12_M1BA2_1, K14 IO_L39N_M1ODT_1, K15 IO_L41P_GCLK9_IRDY1_M1RASN_1, K16 IO_L41N_GCLK8_M1CASN_1, K17 IO_L45P_A1_M1LDQS_1, K18 IO_L45N_A0_M1LDQSN_1, L12 IO_L40P_GCLK11_M1A5_1, L13 IO_L40N_GCLK10_M1A6_1, L14 IO_L61P_1, L15 IO_L42P_GCLK7_M1UDM_1, L16 IO_L42N_GCLK6_TRDY1_M1LDM_1, L17 IO_L46P_FCS_B_M1DQ2_1, L18 IO_L46N_FOE_B_M1DQ3_1, M13 IO_L61N_1, M14 IO_L53P_1, M15 VCCO_1, M16 IO_L47P_FWE_B_M1DQ0_1, M18 IO_L47N_LDC_M1DQ1_1, N14 IO_L53N_VREF_1, N15 IO_L50P_M1UDQS_1, N16 IO_L50N_M1UDQSN_1, N17 IO_L48P_HDC_M1DQ8_1, N18 IO_L48N_M1DQ9_1, P15 IO_L74P_AWAKE_1, P16 IO_L74N_DOUT_BUSY_1, P17 IO_L49P_M1DQ10_1, P18 IO_L49N_M1DQ11_1, R17 VCCO_1, T17 IO_L51P_M1DQ12_1, T18 IO_L51N_M1DQ13_1, U17 IO_L52P_M1DQ14_1, U18 IO_L52N_M1DQ15_1
part B pins: C1 IO_L83N_VREF_3, C2 IO_L83P_3, D1 IO_L52N_M3A9_3, D2 IO_L52P_M3A8_3, D3 IO_L54N_M3A11_3, E1 IO_L50N_M3BA2_3, E2 VCCO_3, E3 IO_L50P_M3WE_3, E4 IO_L54P_M3RESET_3, F1 IO_L48N_M3BA1_3, F2 IO_L48P_M3BA0_3, F3 IO_L51N_M3A4_3, F4 IO_L51P_M3A10_3, F5 IO_L55N_M3A14_3, F6 IO_L55P_M3A13_3, G1 IO_L46N_M3CLKN_3, G3 IO_L46P_M3CLK_3, G4 VCCO_3, G6 IO_L53N_M3A12_3, H1 IO_L41N_GCLK26_M3DQ5_3, H2 IO_L41P_GCLK27_M3DQ4_3, H3 IO_L44N_GCLK20_M3A6_3, H4 IO_L44P_GCLK21_M3A5_3, H5 IO_L49N_M3A2_3, H6 IO_L49P_M3A7_3, H7 IO_L53P_M3CKE_3, J1 IO_L40N_M3DQ7_3, J2 VCCO_3, J3 IO_L40P_M3DQ6_3, J5 VCCO_3, J6 IO_L47N_M3A1_3, J7 IO_L47P_M3A0_3, K1 IO_L38N_M3DQ3_3, K2 IO_L38P_M3DQ2_3, K3 IO_L42N_GCLK24_M3LDM_3, K4 IO_L42P_GCLK25_TRDY2_M3UDM_3, K5 IO_L43N_GCLK22_IRDY2_M3CASN_3, K6 IO_L45N_M3ODT_3, L1 IO_L37N_M3DQ1_3, L2 IO_L37P_M3DQ0_3, L3 IO_L39N_M3LDQSN_3, L4 IO_L39P_M3LDQS_3, L5 IO_L43P_GCLK23_M3RASN_3, L6 IO_L31P_3, L7 IO_L45P_M3A3_3, M1 IO_L36N_M3DQ9_3, M3 IO_L36P_M3DQ8_3, M4 VCCO_3, M5 IO_L31N_VREF_3, M8 IO_L40P_2, M10 IO_L22P_2, M11 IO_L15P_2, N1 IO_L35N_M3DQ11_3, N2 IO_L35P_M3DQ10_3, N3 IO_L1N_VREF_3, N4 IO_L1P_3, N5 IO_L64P_D8_2, N6 IO_L47P_2, N7 IO_L44P_2, N8 IO_L40N_2, N9 IO_L22N_2, N10 IO_L20P_2, N11 IO_L15N_2, N12 IO_L13P_M1_2, P1 IO_L34N_M3UDQSN_3, P2 IO_L34P_M3UDQS_3, P3 IO_L2N_3, P4 IO_L2P_3, P6 IO_L64N_D9_2, P7 IO_L47N_2, P8 IO_L44N_2, P9 VCCO_2, P11 IO_L20N_2, P12 IO_L13N_D10_2, R2 VCCO_3, R3 IO_L62P_D5_2, R5 IO_L48P_D7_2, R6 VCCO_2, R7 IO_L46P_2, R8 IO_L31P_GCLK31_D14_2, R10 IO_L29P_GCLK3_2, R11 IO_L16P_2, R12 VCCO_2, R13 IO_L3P_D0_DIN_MISO_MISO1_2, R15 IO_L1P_CCLK_2, T1 IO_L33N_M3DQ13_3, T2 IO_L33P_M3DQ12_3, T3 IO_L62N_D6_2, T4 IO_L63P_2, T5 IO_L48N_RDWR_B_VREF_2, T6 IO_L45P_2, T7 IO_L46N_2, T8 IO_L31N_GCLK30_D15_2, T9 IO_L32P_GCLK29_2, T10 IO_L29N_GCLK2_2, T11 IO_L16N_VREF_2, T12 IO_L19P_2, T13 IO_L3N_MOSI_CSI_B_MISO0_2, T14 IO_L12P_D1_MISO2_2, T15 IO_L1N_M0_CMPMISO_2, U1 IO_L32N_M3DQ15_3, U2 IO_L32P_M3DQ14_3, U3 IO_L65P_INIT_B_2, U4 VCCO_2, U5 IO_L49P_D3_2, U7 IO_L43P_2, U8 IO_L41P_2, U9 VCCO_2, U10 IO_L30P_GCLK1_D13_2, U11 IO_L23P_2, U13 IO_L14P_D11_2, U14 VCCO_2, U15 IO_L5P_2, U16 IO_L2P_CMPCLK_2, V3 IO_L65N_CSO_B_2, V4 IO_L63N_2, V5 IO_L49N_D4_2, V6 IO_L45N_2, V7 IO_L43N_2, V8 IO_L41N_VREF_2, V9 IO_L32N_GCLK28_2, V10 IO_L30N_GCLK0_USERCCLK_2, V11 IO_L23N_2, V12 IO_L19N_2, V13 IO_L14N_D12_2, V14 IO_L12N_D2_MISO3_2, V15 IO_L5N_2, V16 IO_L2N_CMPMOSI_2
part C pins: A4 MGTTXN0_101, A6 MGTTXN1_101, A8 MGTREFCLK0N_101, B4 MGTTXP0_101, B6 MGTTXP1_101, B8 MGTREFCLK0P_101, C5 MGTRXN0_101, C7 MGTRXN1_101, C9 MGTREFCLK1N_101, D5 MGTRXP0_101, D7 MGTRXP1_101, D9 MGTREFCLK1P_101
part D pins: A5 MGTAVTTTX_101, B7 MGTAVCCPLL0_101, C8 MGTAVCC_101, D6 MGTAVTTRX_101, D10 MGTAVCCPLL1_101, E5 MGTAVTTRCAL_101, E7 MGTRREF_101
part E pins: A17 TCK, B18 TMS, D16 TDO, F13 TDI, P13 CMPCS_B_2, R16 SUSPEND, V2 PROGRAM_B_2, V17 DONE_2
part F pins: A1 GND, A7 GND, A9 GND, A11 GND, A18 GND, B1 VCCAUX, B5 GND, B9 GND, B13 GND, B17 VCCAUX, C4 GND, C6 GND, C10 GND, C12 GND, C14 GND, C16 GND, D4 VCCAUX, D8 GND, D14 VCCAUX, E13 GND, E15 GND, F9 GND, F11 GND, G2 GND, G5 GND, G7 VCCINT, G10 VCCAUX, G17 GND, H8 GND, H9 VCCINT, H10 GND, H11 VCCINT, J4 GND, J8 VCCINT, J9 GND, J10 VCCINT, J11 GND, J12 VCCAUX, J15 GND, K7 VCCAUX, K8 GND, K9 VCCINT, K10 GND, K11 VCCINT, L8 VCCINT, L9 GND, L10 VCCINT, L11 GND, M2 GND, M6 GND, M7 VCCINT, M9 VCCAUX, M12 VCCINT, M17 GND, N13 GND, P5 VCCAUX, P10 VCCAUX, P14 VCCAUX, R1 GND, R4 GND, R9 GND, R14 GND, R18 GND, T16 GND, U6 GND, U12 GND, V1 GND, V18 GND

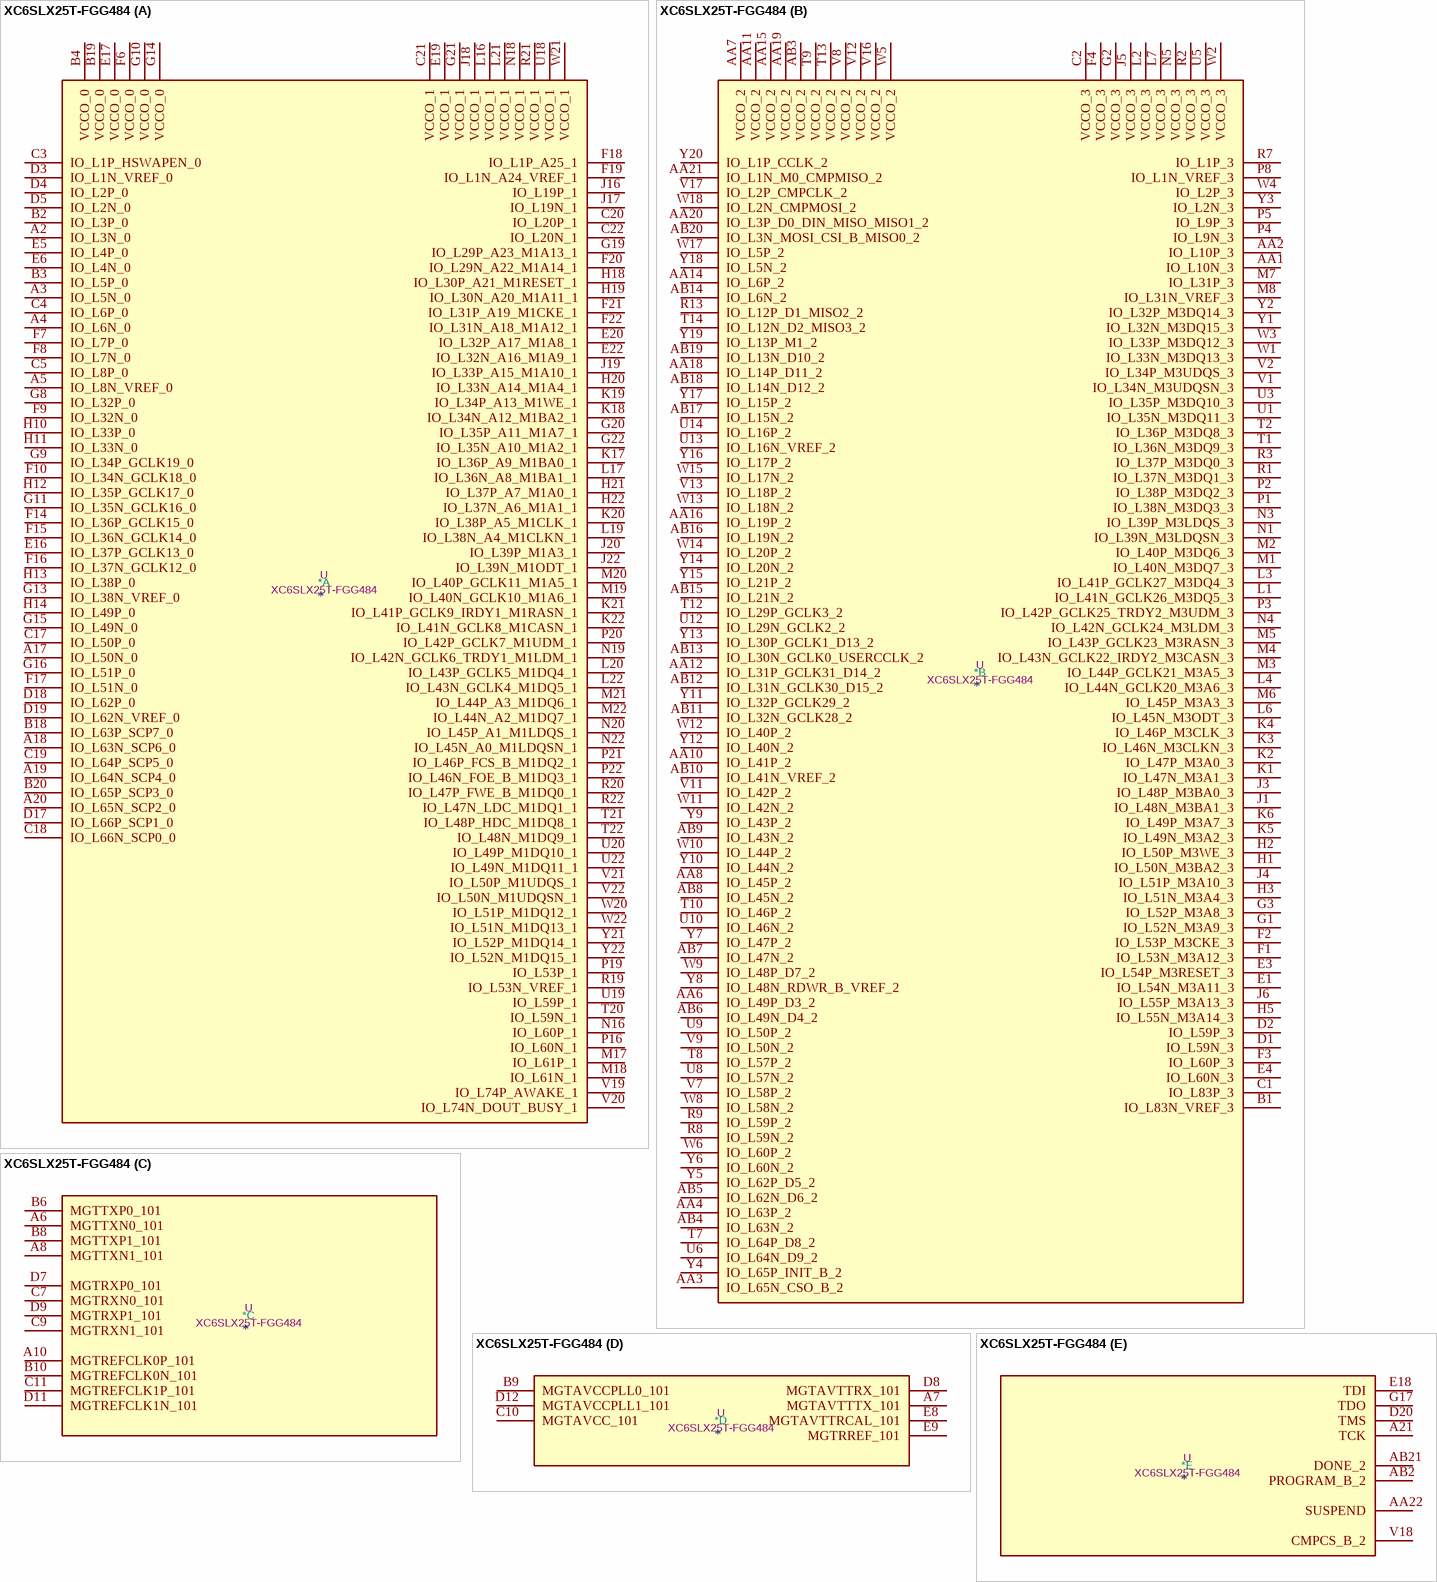
[diagram p15: symbol XC6SLX25T-FGG484]

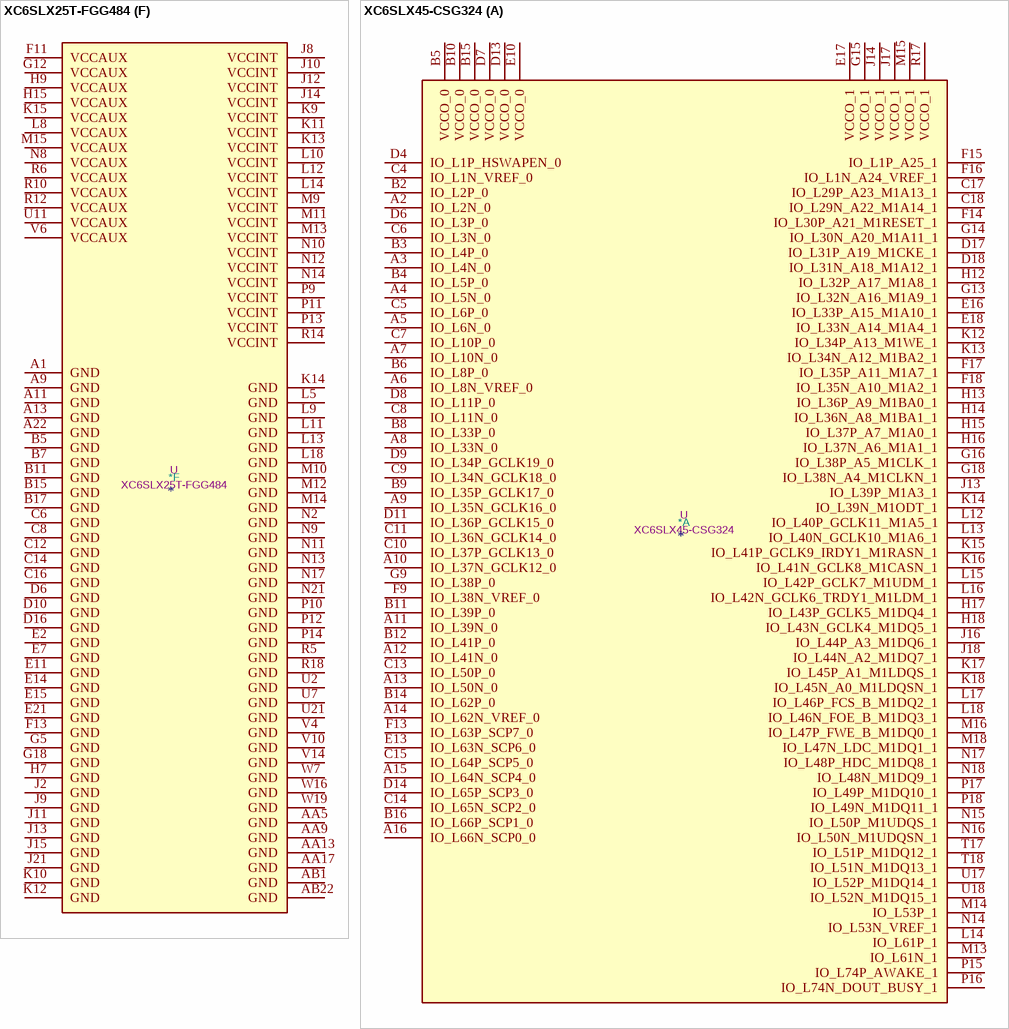
[diagram p16: symbols XC6SLX25T-FGG484 to XC6SLX45-CSG324]

## XC6SLX25T-FGG484
designator *  value XC6SLX25T-FGG484  Reference: U
Spartan 6 LXT 25 XC6SLX25T-FGG484; ki_keywords: FPGA; Description_: Spartan 6 LXT 25 XC6SLX25T-FGG484
part A pins: A2 IO_L3N_0, A3 IO_L5N_0, A4 IO_L6N_0, A5 IO_L8N_VREF_0, A17 IO_L50N_0, A18 IO_L63N_SCP6_0, A19 IO_L64N_SCP4_0, A20 IO_L65N_SCP2_0, B2 IO_L3P_0, B3 IO_L5P_0, B4 VCCO_0, B18 IO_L63P_SCP7_0, B19 VCCO_0, B20 IO_L65P_SCP3_0, C3 IO_L1P_HSWAPEN_0, C4 IO_L6P_0, C5 IO_L8P_0, C17 IO_L50P_0, C18 IO_L66N_SCP0_0, C19 IO_L64P_SCP5_0, C20 IO_L20P_1, C21 VCCO_1, C22 IO_L20N_1, D3 IO_L1N_VREF_0, D4 IO_L2P_0, D5 IO_L2N_0, D17 IO_L66P_SCP1_0, D18 IO_L62P_0, D19 IO_L62N_VREF_0, E5 IO_L4P_0, E6 IO_L4N_0, E16 IO_L37P_GCLK13_0, E17 VCCO_0, E19 VCCO_1, E20 IO_L32P_A17_M1A8_1, E22 IO_L32N_A16_M1A9_1, F6 VCCO_0, F7 IO_L7P_0, F8 IO_L7N_0, F9 IO_L32N_0, F10 IO_L34N_GCLK18_0, F14 IO_L36P_GCLK15_0, F15 IO_L36N_GCLK14_0, F16 IO_L37N_GCLK12_0, F17 IO_L51N_0, F18 IO_L1P_A25_1, F19 IO_L1N_A24_VREF_1, F20 IO_L29N_A22_M1A14_1, F21 IO_L31P_A19_M1CKE_1, F22 IO_L31N_A18_M1A12_1, G8 IO_L32P_0, G9 IO_L34P_GCLK19_0, G10 VCCO_0, G11 IO_L35N_GCLK16_0, G13 IO_L38N_VREF_0, G14 VCCO_0, G15 IO_L49N_0, G16 IO_L51P_0, G19 IO_L29P_A23_M1A13_1, G20 IO_L35P_A11_M1A7_1, G21 VCCO_1, G22 IO_L35N_A10_M1A2_1, H10 IO_L33P_0, H11 IO_L33N_0, H12 IO_L35P_GCLK17_0, H13 IO_L38P_0, H14 IO_L49P_0, H18 IO_L30P_A21_M1RESET_1, H19 IO_L30N_A20_M1A11_1, H20 IO_L33N_A14_M1A4_1, H21 IO_L37P_A7_M1A0_1, H22 IO_L37N_A6_M1A1_1, J16 IO_L19P_1, J17 IO_L19N_1, J18 VCCO_1, J19 IO_L33P_A15_M1A10_1, J20 IO_L39P_M1A3_1, J22 IO_L39N_M1ODT_1, K17 IO_L36P_A9_M1BA0_1, K18 IO_L34N_A12_M1BA2_1, K19 IO_L34P_A13_M1WE_1, K20 IO_L38P_A5_M1CLK_1, K21 IO_L41P_GCLK9_IRDY1_M1RASN_1, K22 IO_L41N_GCLK8_M1CASN_1, L16 VCCO_1, L17 IO_L36N_A8_M1BA1_1, L19 IO_L38N_A4_M1CLKN_1, L20 IO_L43P_GCLK5_M1DQ4_1, L21 VCCO_1, L22 IO_L43N_GCLK4_M1DQ5_1, M17 IO_L61P_1, M18 IO_L61N_1, M19 IO_L40N_GCLK10_M1A6_1, M20 IO_L40P_GCLK11_M1A5_1, M21 IO_L44P_A3_M1DQ6_1, M22 IO_L44N_A2_M1DQ7_1, N16 IO_L60P_1, N18 VCCO_1, N19 IO_L42N_GCLK6_TRDY1_M1LDM_1, N20 IO_L45P_A1_M1LDQS_1, N22 IO_L45N_A0_M1LDQSN_1, P16 IO_L60N_1, P19 IO_L53P_1, P20 IO_L42P_GCLK7_M1UDM_1, P21 IO_L46P_FCS_B_M1DQ2_1, P22 IO_L46N_FOE_B_M1DQ3_1, R19 IO_L53N_VREF_1, R20 IO_L47P_FWE_B_M1DQ0_1, R21 VCCO_1, R22 IO_L47N_LDC_M1DQ1_1, T20 IO_L59N_1, T21 IO_L48P_HDC_M1DQ8_1, T22 IO_L48N_M1DQ9_1, U18 VCCO_1, U19 IO_L59P_1, U20 IO_L49P_M1DQ10_1, U22 IO_L49N_M1DQ11_1, V19 IO_L74P_AWAKE_1, V20 IO_L74N_DOUT_BUSY_1, V21 IO_L50P_M1UDQS_1, V22 IO_L50N_M1UDQSN_1, W20 IO_L51P_M1DQ12_1, W21 VCCO_1, W22 IO_L51N_M1DQ13_1, Y21 IO_L52P_M1DQ14_1, Y22 IO_L52N_M1DQ15_1
part B pins: AA1 IO_L10N_3, AA2 IO_L10P_3, AA3 IO_L65N_CSO_B_2, AA4 IO_L63P_2, AA6 IO_L49P_D3_2, AA7 VCCO_2, AA8 IO_L45P_2, AA10 IO_L41P_2, AA11 VCCO_2, AA12 IO_L31P_GCLK31_D14_2, AA14 IO_L6P_2, AA15 VCCO_2, AA16 IO_L19P_2, AA18 IO_L14P_D11_2, AA19 VCCO_2, AA20 IO_L3P_D0_DIN_MISO_MISO1_2, AA21 IO_L1N_M0_CMPMISO_2, AB3 VCCO_2, AB4 IO_L63N_2, AB5 IO_L62N_D6_2, AB6 IO_L49N_D4_2, AB7 IO_L47N_2, AB8 IO_L45N_2, AB9 IO_L43N_2, AB10 IO_L41N_VREF_2, AB11 IO_L32N_GCLK28_2, AB12 IO_L31N_GCLK30_D15_2, AB13 IO_L30N_GCLK0_USERCCLK_2, AB14 IO_L6N_2, AB15 IO_L21N_2, AB16 IO_L19N_2, AB17 IO_L15N_2, AB18 IO_L14N_D12_2, AB19 IO_L13N_D10_2, AB20 IO_L3N_MOSI_CSI_B_MISO0_2, B1 IO_L83N_VREF_3, C1 IO_L83P_3, C2 VCCO_3, D1 IO_L59N_3, D2 IO_L59P_3, E1 IO_L54N_M3A11_3, E3 IO_L54P_M3RESET_3, E4 IO_L60N_3, F1 IO_L53N_M3A12_3, F2 IO_L53P_M3CKE_3, F3 IO_L60P_3, F4 VCCO_3, G1 IO_L52N_M3A9_3, G2 VCCO_3, G3 IO_L52P_M3A8_3, H1 IO_L50N_M3BA2_3, H2 IO_L50P_M3WE_3, H3 IO_L51N_M3A4_3, H5 IO_L55N_M3A14_3, J1 IO_L48N_M3BA1_3, J3 IO_L48P_M3BA0_3, J4 IO_L51P_M3A10_3, J5 VCCO_3, J6 IO_L55P_M3A13_3, K1 IO_L47N_M3A1_3, K2 IO_L47P_M3A0_3, K3 IO_L46N_M3CLKN_3, K4 IO_L46P_M3CLK_3, K5 IO_L49N_M3A2_3, K6 IO_L49P_M3A7_3, L1 IO_L41N_GCLK26_M3DQ5_3, L2 VCCO_3, L3 IO_L41P_GCLK27_M3DQ4_3, L4 IO_L44N_GCLK20_M3A6_3, L6 IO_L45N_M3ODT_3, L7 VCCO_3, M1 IO_L40N_M3DQ7_3, M2 IO_L40P_M3DQ6_3, M3 IO_L44P_GCLK21_M3A5_3, M4 IO_L43N_GCLK22_IRDY2_M3CASN_3, M5 IO_L43P_GCLK23_M3RASN_3, M6 IO_L45P_M3A3_3, M7 IO_L31P_3, M8 IO_L31N_VREF_3, N1 IO_L39N_M3LDQSN_3, N3 IO_L39P_M3LDQS_3, N4 IO_L42N_GCLK24_M3LDM_3, N5 VCCO_3, P1 IO_L38N_M3DQ3_3, P2 IO_L38P_M3DQ2_3, P3 IO_L42P_GCLK25_TRDY2_M3UDM_3, P4 IO_L9N_3, P5 IO_L9P_3, P8 IO_L1N_VREF_3, R1 IO_L37N_M3DQ1_3, R2 VCCO_3, R3 IO_L37P_M3DQ0_3, R7 IO_L1P_3, R8 IO_L59N_2, R9 IO_L59P_2, R13 IO_L12P_D1_MISO2_2, T1 IO_L36N_M3DQ9_3, T2 IO_L36P_M3DQ8_3, T7 IO_L64P_D8_2, T8 IO_L57P_2, T9 VCCO_2, T10 IO_L46P_2, T12 IO_L29P_GCLK3_2, T13 VCCO_2, T14 IO_L12N_D2_MISO3_2, U1 IO_L35N_M3DQ11_3, U3 IO_L35P_M3DQ10_3, U5 VCCO_3, U6 IO_L64N_D9_2, U8 IO_L57N_2, U9 IO_L50P_2, U10 IO_L46N_2, U12 IO_L29N_GCLK2_2, U13 IO_L16N_VREF_2, U14 IO_L16P_2, V1 IO_L34N_M3UDQSN_3, V2 IO_L34P_M3UDQS_3, V7 IO_L58P_2, V8 VCCO_2, V9 IO_L50N_2, V11 IO_L42P_2, V12 VCCO_2, V13 IO_L18P_2, V16 VCCO_2, V17 IO_L2P_CMPCLK_2, W1 IO_L33N_M3DQ13_3, W2 VCCO_3, W3 IO_L33P_M3DQ12_3, W4 IO_L2P_3, W5 VCCO_2, W6 IO_L60P_2, W8 IO_L58N_2, W9 IO_L48P_D7_2, W10 IO_L44P_2, W11 IO_L42N_2, W12 IO_L40P_2, W13 IO_L18N_2, W14 IO_L20P_2, W15 IO_L17N_2, W17 IO_L5P_2, W18 IO_L2N_CMPMOSI_2, Y1 IO_L32N_M3DQ15_3, Y2 IO_L32P_M3DQ14_3, Y3 IO_L2N_3, Y4 IO_L65P_INIT_B_2, Y5 IO_L62P_D5_2, Y6 IO_L60N_2, Y7 IO_L47P_2, Y8 IO_L48N_RDWR_B_VREF_2, Y9 IO_L43P_2, Y10 IO_L44N_2, Y11 IO_L32P_GCLK29_2, Y12 IO_L40N_2, Y13 IO_L30P_GCLK1_D13_2, Y14 IO_L20N_2, Y15 IO_L21P_2, Y16 IO_L17P_2, Y17 IO_L15P_2, Y18 IO_L5N_2, Y19 IO_L13P_M1_2, Y20 IO_L1P_CCLK_2
part C pins: A6 MGTTXN0_101, A8 MGTTXN1_101, A10 MGTREFCLK0P_101, B6 MGTTXP0_101, B8 MGTTXP1_101, B10 MGTREFCLK0N_101, C7 MGTRXN0_101, C9 MGTRXN1_101, C11 MGTREFCLK1P_101, D7 MGTRXP0_101, D9 MGTRXP1_101, D11 MGTREFCLK1N_101
part D pins: A7 MGTAVTTTX_101, B9 MGTAVCCPLL0_101, C10 MGTAVCC_101, D8 MGTAVTTRX_101, D12 MGTAVCCPLL1_101, E8 MGTAVTTRCAL_101, E9 MGTRREF_101
part E pins: A21 TCK, AA22 SUSPEND, AB2 PROGRAM_B_2, AB21 DONE_2, D20 TMS, E18 TDI, G17 TDO, V18 CMPCS_B_2
part F pins: A1 GND, A9 GND, A11 GND, A13 GND, A22 GND, AA5 GND, AA9 GND, AA13 GND, AA17 GND, AB1 GND, AB22 GND, B5 GND, B7 GND, B11 GND, B15 GND, B17 GND, C6 GND, C8 GND, C12 GND, C14 GND, C16 GND, D6 GND, D10 GND, D16 GND, E2 GND, E7 GND, E11 GND, E14 GND, E15 GND, E21 GND, F11 VCCAUX, F13 GND, G5 GND, G12 VCCAUX, G18 GND, H7 GND, H9 VCCAUX, H15 VCCAUX, J2 GND, J8 VCCINT, J9 GND, J10 VCCINT, J11 GND, J12 VCCINT, J13 GND, J14 VCCINT, J15 GND, J21 GND, K9 VCCINT, K10 GND, K11 VCCINT, K12 GND, K13 VCCINT, K14 GND, K15 VCCAUX, L5 GND, L8 VCCAUX, L9 GND, L10 VCCINT, L11 GND, L12 VCCINT, L13 GND, L14 VCCINT, L18 GND, M9 VCCINT, M10 GND, M11 VCCINT, M12 GND, M13 VCCINT, M14 GND, M15 VCCAUX, N2 GND, N8 VCCAUX, N9 GND, N10 VCCINT, N11 GND, N12 VCCINT, N13 GND, N14 VCCINT, N17 GND, N21 GND, P9 VCCINT, P10 GND, P11 VCCINT, P12 GND, P13 VCCINT, P14 GND, R5 GND, R6 VCCAUX, R10 VCCAUX, R12 VCCAUX, R14 VCCINT, R18 GND, U2 GND, U7 GND, U11 VCCAUX, U21 GND, V4 GND, V6 VCCAUX, V10 GND, V14 GND, W7 GND, W16 GND, W19 GND

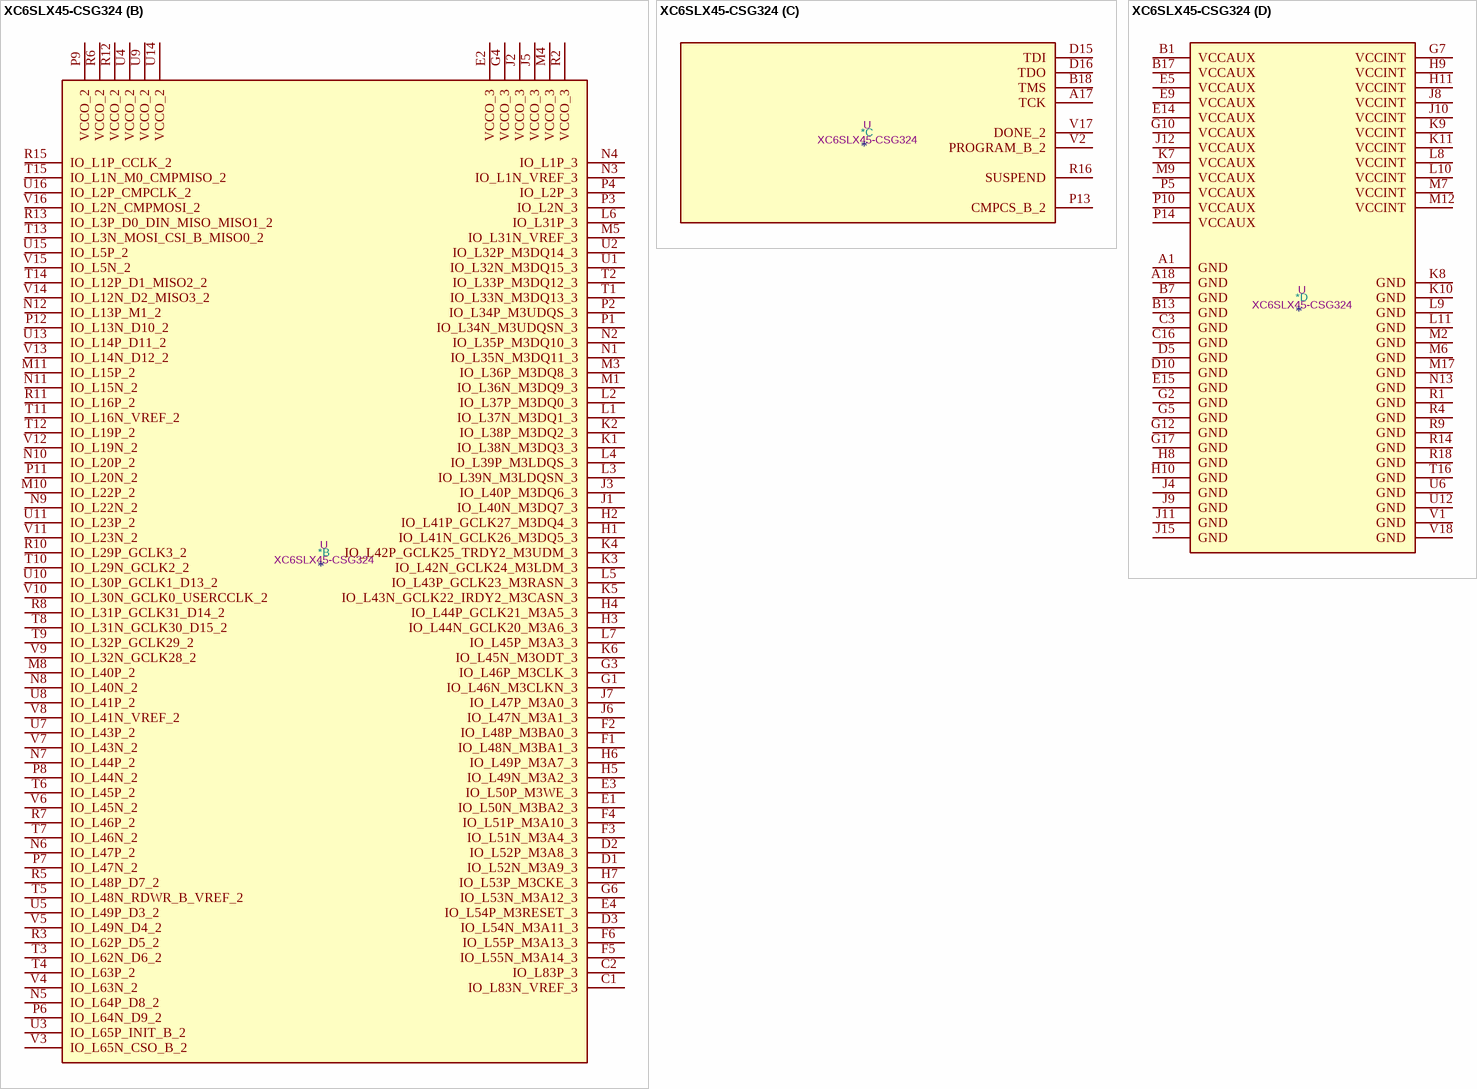
[diagram p17: symbol XC6SLX45-CSG324]

## XC6SLX45-CSG324
designator *  value XC6SLX45-CSG324  Reference: U
Spartan 6 LX 45 XC6SLX45-CSG324; ki_keywords: FPGA; Description_: Spartan 6 LX 45 XC6SLX45-CSG324
part A pins: A2 IO_L2N_0, A3 IO_L4N_0, A4 IO_L5N_0, A5 IO_L6N_0, A6 IO_L8N_VREF_0, A7 IO_L10N_0, A8 IO_L33N_0, A9 IO_L35N_GCLK16_0, A10 IO_L37N_GCLK12_0, A11 IO_L39N_0, A12 IO_L41N_0, A13 IO_L50N_0, A14 IO_L62N_VREF_0, A15 IO_L64N_SCP4_0, A16 IO_L66N_SCP0_0, B2 IO_L2P_0, B3 IO_L4P_0, B4 IO_L5P_0, B5 VCCO_0, B6 IO_L8P_0, B8 IO_L33P_0, B9 IO_L35P_GCLK17_0, B10 VCCO_0, B11 IO_L39P_0, B12 IO_L41P_0, B14 IO_L62P_0, B15 VCCO_0, B16 IO_L66P_SCP1_0, C4 IO_L1N_VREF_0, C5 IO_L6P_0, C6 IO_L3N_0, C7 IO_L10P_0, C8 IO_L11N_0, C9 IO_L34N_GCLK18_0, C10 IO_L37P_GCLK13_0, C11 IO_L36N_GCLK14_0, C13 IO_L50P_0, C14 IO_L65N_SCP2_0, C15 IO_L64P_SCP5_0, C17 IO_L29P_A23_M1A13_1, C18 IO_L29N_A22_M1A14_1, D4 IO_L1P_HSWAPEN_0, D6 IO_L3P_0, D7 VCCO_0, D8 IO_L11P_0, D9 IO_L34P_GCLK19_0, D11 IO_L36P_GCLK15_0, D13 VCCO_0, D14 IO_L65P_SCP3_0, D17 IO_L31P_A19_M1CKE_1, D18 IO_L31N_A18_M1A12_1, E10 VCCO_0, E13 IO_L63N_SCP6_0, E16 IO_L33P_A15_M1A10_1, E17 VCCO_1, E18 IO_L33N_A14_M1A4_1, F9 IO_L38N_VREF_0, F13 IO_L63P_SCP7_0, F14 IO_L30P_A21_M1RESET_1, F15 IO_L1P_A25_1, F16 IO_L1N_A24_VREF_1, F17 IO_L35P_A11_M1A7_1, F18 IO_L35N_A10_M1A2_1, G9 IO_L38P_0, G13 IO_L32N_A16_M1A9_1, G14 IO_L30N_A20_M1A11_1, G15 VCCO_1, G16 IO_L38P_A5_M1CLK_1, G18 IO_L38N_A4_M1CLKN_1, H12 IO_L32P_A17_M1A8_1, H13 IO_L36P_A9_M1BA0_1, H14 IO_L36N_A8_M1BA1_1, H15 IO_L37P_A7_M1A0_1, H16 IO_L37N_A6_M1A1_1, H17 IO_L43P_GCLK5_M1DQ4_1, H18 IO_L43N_GCLK4_M1DQ5_1, J13 IO_L39P_M1A3_1, J14 VCCO_1, J16 IO_L44P_A3_M1DQ6_1, J17 VCCO_1, J18 IO_L44N_A2_M1DQ7_1, K12 IO_L34P_A13_M1WE_1, K13 IO_L34N_A12_M1BA2_1, K14 IO_L39N_M1ODT_1, K15 IO_L41P_GCLK9_IRDY1_M1RASN_1, K16 IO_L41N_GCLK8_M1CASN_1, K17 IO_L45P_A1_M1LDQS_1, K18 IO_L45N_A0_M1LDQSN_1, L12 IO_L40P_GCLK11_M1A5_1, L13 IO_L40N_GCLK10_M1A6_1, L14 IO_L61P_1, L15 IO_L42P_GCLK7_M1UDM_1, L16 IO_L42N_GCLK6_TRDY1_M1LDM_1, L17 IO_L46P_FCS_B_M1DQ2_1, L18 IO_L46N_FOE_B_M1DQ3_1, M13 IO_L61N_1, M14 IO_L53P_1, M15 VCCO_1, M16 IO_L47P_FWE_B_M1DQ0_1, M18 IO_L47N_LDC_M1DQ1_1, N14 IO_L53N_VREF_1, N15 IO_L50P_M1UDQS_1, N16 IO_L50N_M1UDQSN_1, N17 IO_L48P_HDC_M1DQ8_1, N18 IO_L48N_M1DQ9_1, P15 IO_L74P_AWAKE_1, P16 IO_L74N_DOUT_BUSY_1, P17 IO_L49P_M1DQ10_1, P18 IO_L49N_M1DQ11_1, R17 VCCO_1, T17 IO_L51P_M1DQ12_1, T18 IO_L51N_M1DQ13_1, U17 IO_L52P_M1DQ14_1, U18 IO_L52N_M1DQ15_1
part B pins: C1 IO_L83N_VREF_3, C2 IO_L83P_3, D1 IO_L52N_M3A9_3, D2 IO_L52P_M3A8_3, D3 IO_L54N_M3A11_3, E1 IO_L50N_M3BA2_3, E2 VCCO_3, E3 IO_L50P_M3WE_3, E4 IO_L54P_M3RESET_3, F1 IO_L48N_M3BA1_3, F2 IO_L48P_M3BA0_3, F3 IO_L51N_M3A4_3, F4 IO_L51P_M3A10_3, F5 IO_L55N_M3A14_3, F6 IO_L55P_M3A13_3, G1 IO_L46N_M3CLKN_3, G3 IO_L46P_M3CLK_3, G4 VCCO_3, G6 IO_L53N_M3A12_3, H1 IO_L41N_GCLK26_M3DQ5_3, H2 IO_L41P_GCLK27_M3DQ4_3, H3 IO_L44N_GCLK20_M3A6_3, H4 IO_L44P_GCLK21_M3A5_3, H5 IO_L49N_M3A2_3, H6 IO_L49P_M3A7_3, H7 IO_L53P_M3CKE_3, J1 IO_L40N_M3DQ7_3, J2 VCCO_3, J3 IO_L40P_M3DQ6_3, J5 VCCO_3, J6 IO_L47N_M3A1_3, J7 IO_L47P_M3A0_3, K1 IO_L38N_M3DQ3_3, K2 IO_L38P_M3DQ2_3, K3 IO_L42N_GCLK24_M3LDM_3, K4 IO_L42P_GCLK25_TRDY2_M3UDM_3, K5 IO_L43N_GCLK22_IRDY2_M3CASN_3, K6 IO_L45N_M3ODT_3, L1 IO_L37N_M3DQ1_3, L2 IO_L37P_M3DQ0_3, L3 IO_L39N_M3LDQSN_3, L4 IO_L39P_M3LDQS_3, L5 IO_L43P_GCLK23_M3RASN_3, L6 IO_L31P_3, L7 IO_L45P_M3A3_3, M1 IO_L36N_M3DQ9_3, M3 IO_L36P_M3DQ8_3, M4 VCCO_3, M5 IO_L31N_VREF_3, M8 IO_L40P_2, M10 IO_L22P_2, M11 IO_L15P_2, N1 IO_L35N_M3DQ11_3, N2 IO_L35P_M3DQ10_3, N3 IO_L1N_VREF_3, N4 IO_L1P_3, N5 IO_L64P_D8_2, N6 IO_L47P_2, N7 IO_L44P_2, N8 IO_L40N_2, N9 IO_L22N_2, N10 IO_L20P_2, N11 IO_L15N_2, N12 IO_L13P_M1_2, P1 IO_L34N_M3UDQSN_3, P2 IO_L34P_M3UDQS_3, P3 IO_L2N_3, P4 IO_L2P_3, P6 IO_L64N_D9_2, P7 IO_L47N_2, P8 IO_L44N_2, P9 VCCO_2, P11 IO_L20N_2, P12 IO_L13N_D10_2, R2 VCCO_3, R3 IO_L62P_D5_2, R5 IO_L48P_D7_2, R6 VCCO_2, R7 IO_L46P_2, R8 IO_L31P_GCLK31_D14_2, R10 IO_L29P_GCLK3_2, R11 IO_L16P_2, R12 VCCO_2, R13 IO_L3P_D0_DIN_MISO_MISO1_2, R15 IO_L1P_CCLK_2, T1 IO_L33N_M3DQ13_3, T2 IO_L33P_M3DQ12_3, T3 IO_L62N_D6_2, T4 IO_L63P_2, T5 IO_L48N_RDWR_B_VREF_2, T6 IO_L45P_2, T7 IO_L46N_2, T8 IO_L31N_GCLK30_D15_2, T9 IO_L32P_GCLK29_2, T10 IO_L29N_GCLK2_2, T11 IO_L16N_VREF_2, T12 IO_L19P_2, T13 IO_L3N_MOSI_CSI_B_MISO0_2, T14 IO_L12P_D1_MISO2_2, T15 IO_L1N_M0_CMPMISO_2, U1 IO_L32N_M3DQ15_3, U2 IO_L32P_M3DQ14_3, U3 IO_L65P_INIT_B_2, U4 VCCO_2, U5 IO_L49P_D3_2, U7 IO_L43P_2, U8 IO_L41P_2, U9 VCCO_2, U10 IO_L30P_GCLK1_D13_2, U11 IO_L23P_2, U13 IO_L14P_D11_2, U14 VCCO_2, U15 IO_L5P_2, U16 IO_L2P_CMPCLK_2, V3 IO_L65N_CSO_B_2, V4 IO_L63N_2, V5 IO_L49N_D4_2, V6 IO_L45N_2, V7 IO_L43N_2, V8 IO_L41N_VREF_2, V9 IO_L32N_GCLK28_2, V10 IO_L30N_GCLK0_USERCCLK_2, V11 IO_L23N_2, V12 IO_L19N_2, V13 IO_L14N_D12_2, V14 IO_L12N_D2_MISO3_2, V15 IO_L5N_2, V16 IO_L2N_CMPMOSI_2
part C pins: A17 TCK, B18 TMS, D15 TDI, D16 TDO, P13 CMPCS_B_2, R16 SUSPEND, V2 PROGRAM_B_2, V17 DONE_2
part D pins: A1 GND, A18 GND, B1 VCCAUX, B7 GND, B13 GND, B17 VCCAUX, C3 GND, C16 GND, D5 GND, D10 GND, E5 VCCAUX, E9 VCCAUX, E14 VCCAUX, E15 GND, G2 GND, G5 GND, G7 VCCINT, G10 VCCAUX, G12 GND, G17 GND, H8 GND, H9 VCCINT, H10 GND, H11 VCCINT, J4 GND, J8 VCCINT, J9 GND, J10 VCCINT, J11 GND, J12 VCCAUX, J15 GND, K7 VCCAUX, K8 GND, K9 VCCINT, K10 GND, K11 VCCINT, L8 VCCINT, L9 GND, L10 VCCINT, L11 GND, M2 GND, M6 GND, M7 VCCINT, M9 VCCAUX, M12 VCCINT, M17 GND, N13 GND, P5 VCCAUX, P10 VCCAUX, P14 VCCAUX, R1 GND, R4 GND, R9 GND, R14 GND, R18 GND, T16 GND, U6 GND, U12 GND, V1 GND, V18 GND

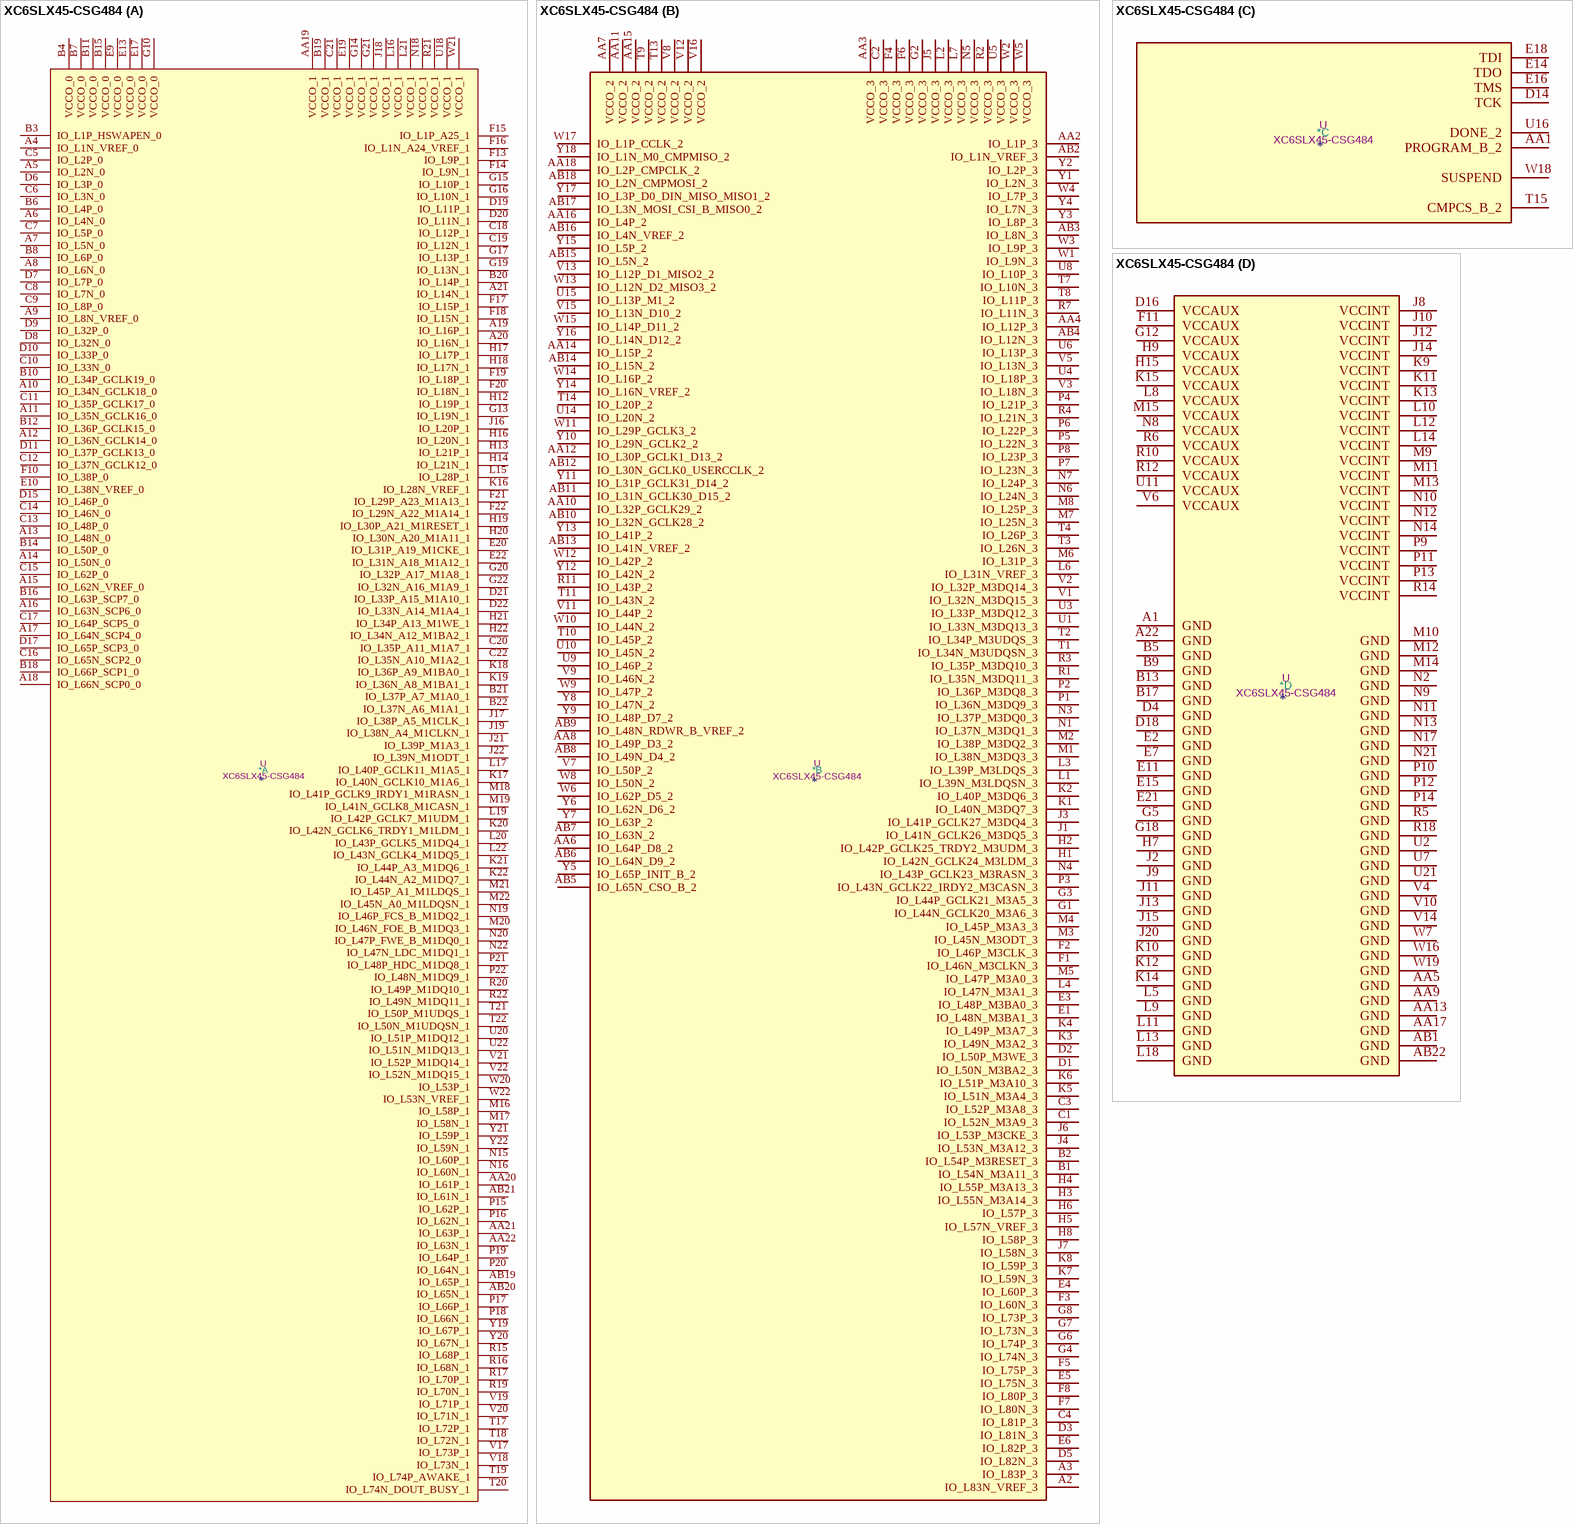
[diagram p18: symbol XC6SLX45-CSG484]

## XC6SLX45-CSG484
designator *  value XC6SLX45-CSG484  Reference: U
Spartan 6 LX 45 XC6SLX45-CSG484; ki_keywords: FPGA; Description_: Spartan 6 LX 45 XC6SLX45-CSG484
part A pins: A4 IO_L1N_VREF_0, A5 IO_L2N_0, A6 IO_L4N_0, A7 IO_L5N_0, A8 IO_L6N_0, A9 IO_L8N_VREF_0, A10 IO_L34N_GCLK18_0, A11 IO_L35N_GCLK16_0, A12 IO_L36N_GCLK14_0, A13 IO_L48N_0, A14 IO_L50N_0, A15 IO_L62N_VREF_0, A16 IO_L63N_SCP6_0, A17 IO_L64N_SCP4_0, A18 IO_L66N_SCP0_0, A19 IO_L16P_1, A20 IO_L16N_1, A21 IO_L14N_1, AA19 VCCO_1, AA20 IO_L61P_1, AA21 IO_L63P_1, AA22 IO_L63N_1, AB19 IO_L65P_1, AB20 IO_L65N_1, AB21 IO_L61N_1, B3 IO_L1P_HSWAPEN_0, B4 VCCO_0, B6 IO_L4P_0, B7 VCCO_0, B8 IO_L6P_0, B10 IO_L34P_GCLK19_0, B11 VCCO_0, B12 IO_L36P_GCLK15_0, B14 IO_L50P_0, B15 VCCO_0, B16 IO_L63P_SCP7_0, B18 IO_L66P_SCP1_0, B19 VCCO_1, B20 IO_L14P_1, B21 IO_L37P_A7_M1A0_1, B22 IO_L37N_A6_M1A1_1, C5 IO_L2P_0, C6 IO_L3N_0, C7 IO_L5P_0, C8 IO_L7N_0, C9 IO_L8P_0, C10 IO_L33N_0, C11 IO_L35P_GCLK17_0, C12 IO_L37N_GCLK12_0, C13 IO_L48P_0, C14 IO_L46N_0, C15 IO_L62P_0, C16 IO_L65N_SCP2_0, C17 IO_L64P_SCP5_0, C18 IO_L12P_1, C19 IO_L12N_1, C20 IO_L35P_A11_M1A7_1, C21 VCCO_1, C22 IO_L35N_A10_M1A2_1, D6 IO_L3P_0, D7 IO_L7P_0, D8 IO_L32N_0, D9 IO_L32P_0, D10 IO_L33P_0, D11 IO_L37P_GCLK13_0, D15 IO_L46P_0, D17 IO_L65P_SCP3_0, D19 IO_L11P_1, D20 IO_L11N_1, D21 IO_L33P_A15_M1A10_1, D22 IO_L33N_A14_M1A4_1, E9 VCCO_0, E10 IO_L38N_VREF_0, E13 VCCO_0, E17 VCCO_0, E19 VCCO_1, E20 IO_L31P_A19_M1CKE_1, E22 IO_L31N_A18_M1A12_1, F10 IO_L38P_0, F13 IO_L9P_1, F14 IO_L9N_1, F15 IO_L1P_A25_1, F16 IO_L1N_A24_VREF_1, F17 IO_L15P_1, F18 IO_L15N_1, F19 IO_L18P_1, F20 IO_L18N_1, F21 IO_L29P_A23_M1A13_1, F22 IO_L29N_A22_M1A14_1, G10 VCCO_0, G13 IO_L19N_1, G14 VCCO_1, G15 IO_L10P_1, G16 IO_L10N_1, G17 IO_L13P_1, G19 IO_L13N_1, G20 IO_L32P_A17_M1A8_1, G21 VCCO_1, G22 IO_L32N_A16_M1A9_1, H12 IO_L19P_1, H13 IO_L21P_1, H14 IO_L21N_1, H16 IO_L20N_1, H17 IO_L17P_1, H18 IO_L17N_1, H19 IO_L30P_A21_M1RESET_1, H20 IO_L30N_A20_M1A11_1, H21 IO_L34P_A13_M1WE_1, H22 IO_L34N_A12_M1BA2_1, J16 IO_L20P_1, J17 IO_L38P_A5_M1CLK_1, J18 VCCO_1, J19 IO_L38N_A4_M1CLKN_1, J21 IO_L39P_M1A3_1, J22 IO_L39N_M1ODT_1, K16 IO_L28N_VREF_1, K17 IO_L40N_GCLK10_M1A6_1, K18 IO_L36P_A9_M1BA0_1, K19 IO_L36N_A8_M1BA1_1, K20 IO_L42N_GCLK6_TRDY1_M1LDM_1, K21 IO_L44P_A3_M1DQ6_1, K22 IO_L44N_A2_M1DQ7_1, L15 IO_L28P_1, L16 VCCO_1, L17 IO_L40P_GCLK11_M1A5_1, L19 IO_L42P_GCLK7_M1UDM_1, L20 IO_L43P_GCLK5_M1DQ4_1, L21 VCCO_1, L22 IO_L43N_GCLK4_M1DQ5_1, M16 IO_L58P_1, M17 IO_L58N_1, M18 IO_L41P_GCLK9_IRDY1_M1RASN_1, M19 IO_L41N_GCLK8_M1CASN_1, M20 IO_L46N_FOE_B_M1DQ3_1, M21 IO_L45P_A1_M1LDQS_1, M22 IO_L45N_A0_M1LDQSN_1, N15 IO_L60P_1, N16 IO_L60N_1, N18 VCCO_1, N19 IO_L46P_FCS_B_M1DQ2_1, N20 IO_L47P_FWE_B_M1DQ0_1, N22 IO_L47N_LDC_M1DQ1_1, P15 IO_L62P_1, P16 IO_L62N_1, P17 IO_L66P_1, P18 IO_L66N_1, P19 IO_L64P_1, P20 IO_L64N_1, P21 IO_L48P_HDC_M1DQ8_1, P22 IO_L48N_M1DQ9_1, R15 IO_L68P_1, R16 IO_L68N_1, R17 IO_L70P_1, R19 IO_L70N_1, R20 IO_L49P_M1DQ10_1, R21 VCCO_1, R22 IO_L49N_M1DQ11_1, T17 IO_L72P_1, T18 IO_L72N_1, T19 IO_L74P_AWAKE_1, T20 IO_L74N_DOUT_BUSY_1, T21 IO_L50P_M1UDQS_1, T22 IO_L50N_M1UDQSN_1, U18 VCCO_1, U20 IO_L51P_M1DQ12_1, U22 IO_L51N_M1DQ13_1, V17 IO_L73P_1, V18 IO_L73N_1, V19 IO_L71P_1, V20 IO_L71N_1, V21 IO_L52P_M1DQ14_1, V22 IO_L52N_M1DQ15_1, W20 IO_L53P_1, W21 VCCO_1, W22 IO_L53N_VREF_1, Y19 IO_L67P_1, Y20 IO_L67N_1, Y21 IO_L59P_1, Y22 IO_L59N_1
part B pins: A2 IO_L83N_VREF_3, A3 IO_L83P_3, AA2 IO_L1P_3, AA3 VCCO_3, AA4 IO_L12P_3, AA6 IO_L64P_D8_2, AA7 VCCO_2, AA8 IO_L49P_D3_2, AA10 IO_L32P_GCLK29_2, AA11 VCCO_2, AA12 IO_L30P_GCLK1_D13_2, AA14 IO_L15P_2, AA15 VCCO_2, AA16 IO_L4P_2, AA18 IO_L2P_CMPCLK_2, AB2 IO_L1N_VREF_3, AB3 IO_L8N_3, AB4 IO_L12N_3, AB5 IO_L65N_CSO_B_2, AB6 IO_L64N_D9_2, AB7 IO_L63N_2, AB8 IO_L49N_D4_2, AB9 IO_L48N_RDWR_B_VREF_2, AB10 IO_L32N_GCLK28_2, AB11 IO_L31N_GCLK30_D15_2, AB12 IO_L30N_GCLK0_USERCCLK_2, AB13 IO_L41N_VREF_2, AB14 IO_L15N_2, AB15 IO_L5N_2, AB16 IO_L4N_VREF_2, AB17 IO_L3N_MOSI_CSI_B_MISO0_2, AB18 IO_L2N_CMPMOSI_2, B1 IO_L54N_M3A11_3, B2 IO_L54P_M3RESET_3, C1 IO_L52N_M3A9_3, C2 VCCO_3, C3 IO_L52P_M3A8_3, C4 IO_L81P_3, D1 IO_L50N_M3BA2_3, D2 IO_L50P_M3WE_3, D3 IO_L81N_3, D5 IO_L82N_3, E1 IO_L48N_M3BA1_3, E3 IO_L48P_M3BA0_3, E4 IO_L60P_3, E5 IO_L75N_3, E6 IO_L82P_3, F1 IO_L46N_M3CLKN_3, F2 IO_L46P_M3CLK_3, F3 IO_L60N_3, F4 VCCO_3, F5 IO_L75P_3, F6 VCCO_3, F7 IO_L80N_3, F8 IO_L80P_3, G1 IO_L44N_GCLK20_M3A6_3, G2 VCCO_3, G3 IO_L44P_GCLK21_M3A5_3, G4 IO_L74N_3, G6 IO_L74P_3, G7 IO_L73N_3, G8 IO_L73P_3, H1 IO_L42N_GCLK24_M3LDM_3, H2 IO_L42P_GCLK25_TRDY2_M3UDM_3, H3 IO_L55N_M3A14_3, H4 IO_L55P_M3A13_3, H5 IO_L57N_VREF_3, H6 IO_L57P_3, H8 IO_L58P_3, J1 IO_L41N_GCLK26_M3DQ5_3, J3 IO_L41P_GCLK27_M3DQ4_3, J4 IO_L53N_M3A12_3, J5 VCCO_3, J6 IO_L53P_M3CKE_3, J7 IO_L58N_3, K1 IO_L40N_M3DQ7_3, K2 IO_L40P_M3DQ6_3, K3 IO_L49N_M3A2_3, K4 IO_L49P_M3A7_3, K5 IO_L51N_M3A4_3, K6 IO_L51P_M3A10_3, K7 IO_L59N_3, K8 IO_L59P_3, L1 IO_L39N_M3LDQSN_3, L2 VCCO_3, L3 IO_L39P_M3LDQS_3, L4 IO_L47N_M3A1_3, L6 IO_L31N_VREF_3, L7 VCCO_3, M1 IO_L38N_M3DQ3_3, M2 IO_L38P_M3DQ2_3, M3 IO_L45N_M3ODT_3, M4 IO_L45P_M3A3_3, M5 IO_L47P_M3A0_3, M6 IO_L31P_3, M7 IO_L25N_3, M8 IO_L25P_3, N1 IO_L37N_M3DQ1_3, N3 IO_L37P_M3DQ0_3, N4 IO_L43P_GCLK23_M3RASN_3, N5 VCCO_3, N6 IO_L24N_3, N7 IO_L24P_3, P1 IO_L36N_M3DQ9_3, P2 IO_L36P_M3DQ8_3, P3 IO_L43N_GCLK22_IRDY2_M3CASN_3, P4 IO_L21P_3, P5 IO_L22N_3, P6 IO_L22P_3, P7 IO_L23N_3, P8 IO_L23P_3, R1 IO_L35N_M3DQ11_3, R2 VCCO_3, R3 IO_L35P_M3DQ10_3, R4 IO_L21N_3, R7 IO_L11N_3, R11 IO_L43P_2, T1 IO_L34N_M3UDQSN_3, T2 IO_L34P_M3UDQS_3, T3 IO_L26N_3, T4 IO_L26P_3, T7 IO_L10N_3, T8 IO_L11P_3, T9 VCCO_2, T10 IO_L45P_2, T11 IO_L43N_2, T13 VCCO_2, T14 IO_L20P_2, U1 IO_L33N_M3DQ13_3, U3 IO_L33P_M3DQ12_3, U4 IO_L18P_3, U5 VCCO_3, U6 IO_L13P_3, U8 IO_L10P_3, U9 IO_L46P_2, U10 IO_L45N_2, U14 IO_L20N_2, U15 IO_L13P_M1_2, V1 IO_L32N_M3DQ15_3, V2 IO_L32P_M3DQ14_3, V3 IO_L18N_3, V5 IO_L13N_3, V7 IO_L50P_2, V8 VCCO_2, V9 IO_L46N_2, V11 IO_L44P_2, V12 VCCO_2, V13 IO_L12P_D1_MISO2_2, V15 IO_L13N_D10_2, V16 VCCO_2, W1 IO_L9N_3, W2 VCCO_3, W3 IO_L9P_3, W4 IO_L7P_3, W5 VCCO_3, W6 IO_L62P_D5_2, W8 IO_L50N_2, W9 IO_L47P_2, W10 IO_L44N_2, W11 IO_L29P_GCLK3_2, W12 IO_L42P_2, W13 IO_L12N_D2_MISO3_2, W14 IO_L16P_2, W15 IO_L14P_D11_2, W17 IO_L1P_CCLK_2, Y1 IO_L2N_3, Y2 IO_L2P_3, Y3 IO_L8P_3, Y4 IO_L7N_3, Y5 IO_L65P_INIT_B_2, Y6 IO_L62N_D6_2, Y7 IO_L63P_2, Y8 IO_L47N_2, Y9 IO_L48P_D7_2, Y10 IO_L29N_GCLK2_2, Y11 IO_L31P_GCLK31_D14_2, Y12 IO_L42N_2, Y13 IO_L41P_2, Y14 IO_L16N_VREF_2, Y15 IO_L5P_2, Y16 IO_L14N_D12_2, Y17 IO_L3P_D0_DIN_MISO_MISO1_2, Y18 IO_L1N_M0_CMPMISO_2
part C pins: AA1 PROGRAM_B_2, D14 TCK, E14 TDO, E16 TMS, E18 TDI, T15 CMPCS_B_2, U16 DONE_2, W18 SUSPEND
part D pins: A1 GND, A22 GND, AA5 GND, AA9 GND, AA13 GND, AA17 GND, AB1 GND, AB22 GND, B5 GND, B9 GND, B13 GND, B17 GND, D4 GND, D16 VCCAUX, D18 GND, E2 GND, E7 GND, E11 GND, E15 GND, E21 GND, F11 VCCAUX, G5 GND, G12 VCCAUX, G18 GND, H7 GND, H9 VCCAUX, H15 VCCAUX, J2 GND, J8 VCCINT, J9 GND, J10 VCCINT, J11 GND, J12 VCCINT, J13 GND, J14 VCCINT, J15 GND, J20 GND, K9 VCCINT, K10 GND, K11 VCCINT, K12 GND, K13 VCCINT, K14 GND, K15 VCCAUX, L5 GND, L8 VCCAUX, L9 GND, L10 VCCINT, L11 GND, L12 VCCINT, L13 GND, L14 VCCINT, L18 GND, M9 VCCINT, M10 GND, M11 VCCINT, M12 GND, M13 VCCINT, M14 GND, M15 VCCAUX, N2 GND, N8 VCCAUX, N9 GND, N10 VCCINT, N11 GND, N12 VCCINT, N13 GND, N14 VCCINT, N17 GND, N21 GND, P9 VCCINT, P10 GND, P11 VCCINT, P12 GND, P13 VCCINT, P14 GND, R5 GND, R6 VCCAUX, R10 VCCAUX, R12 VCCAUX, R14 VCCINT, R18 GND, U2 GND, U7 GND, U11 VCCAUX, U21 GND, V4 GND, V6 VCCAUX, V10 GND, V14 GND, W7 GND, W16 GND, W19 GND

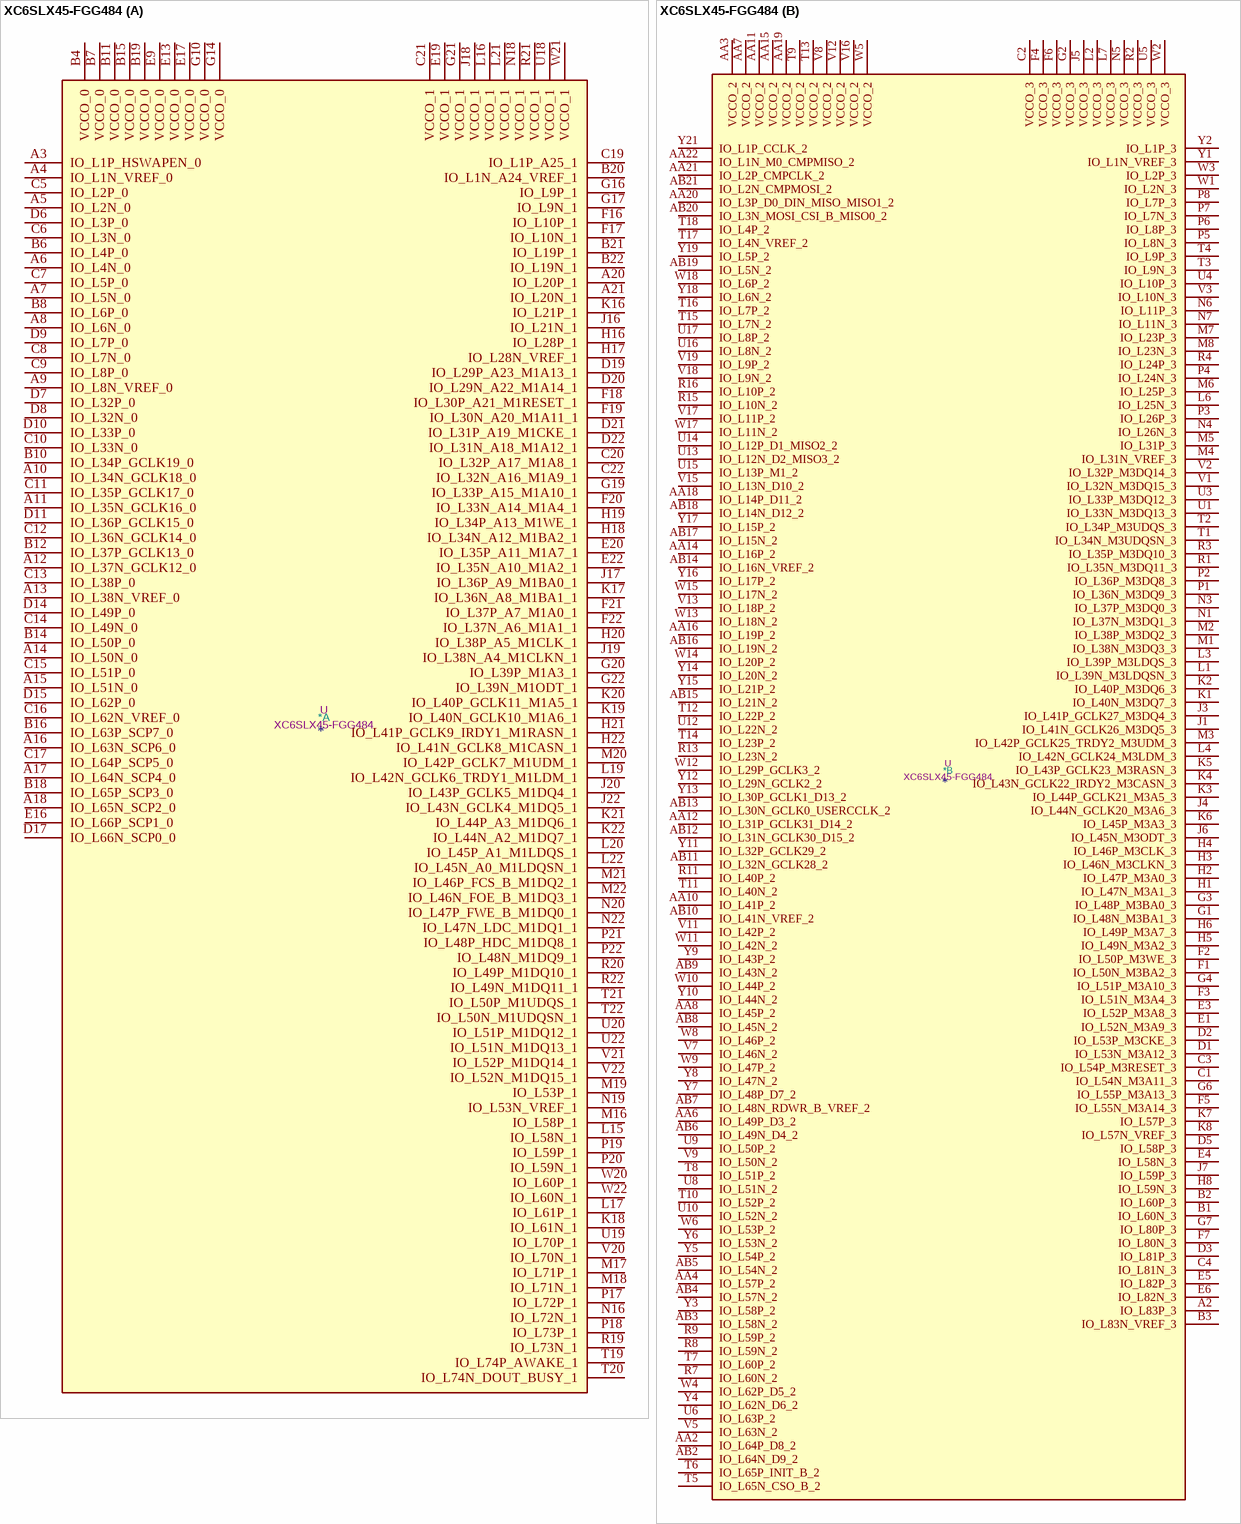
[diagram p19: symbol XC6SLX45-FGG484]

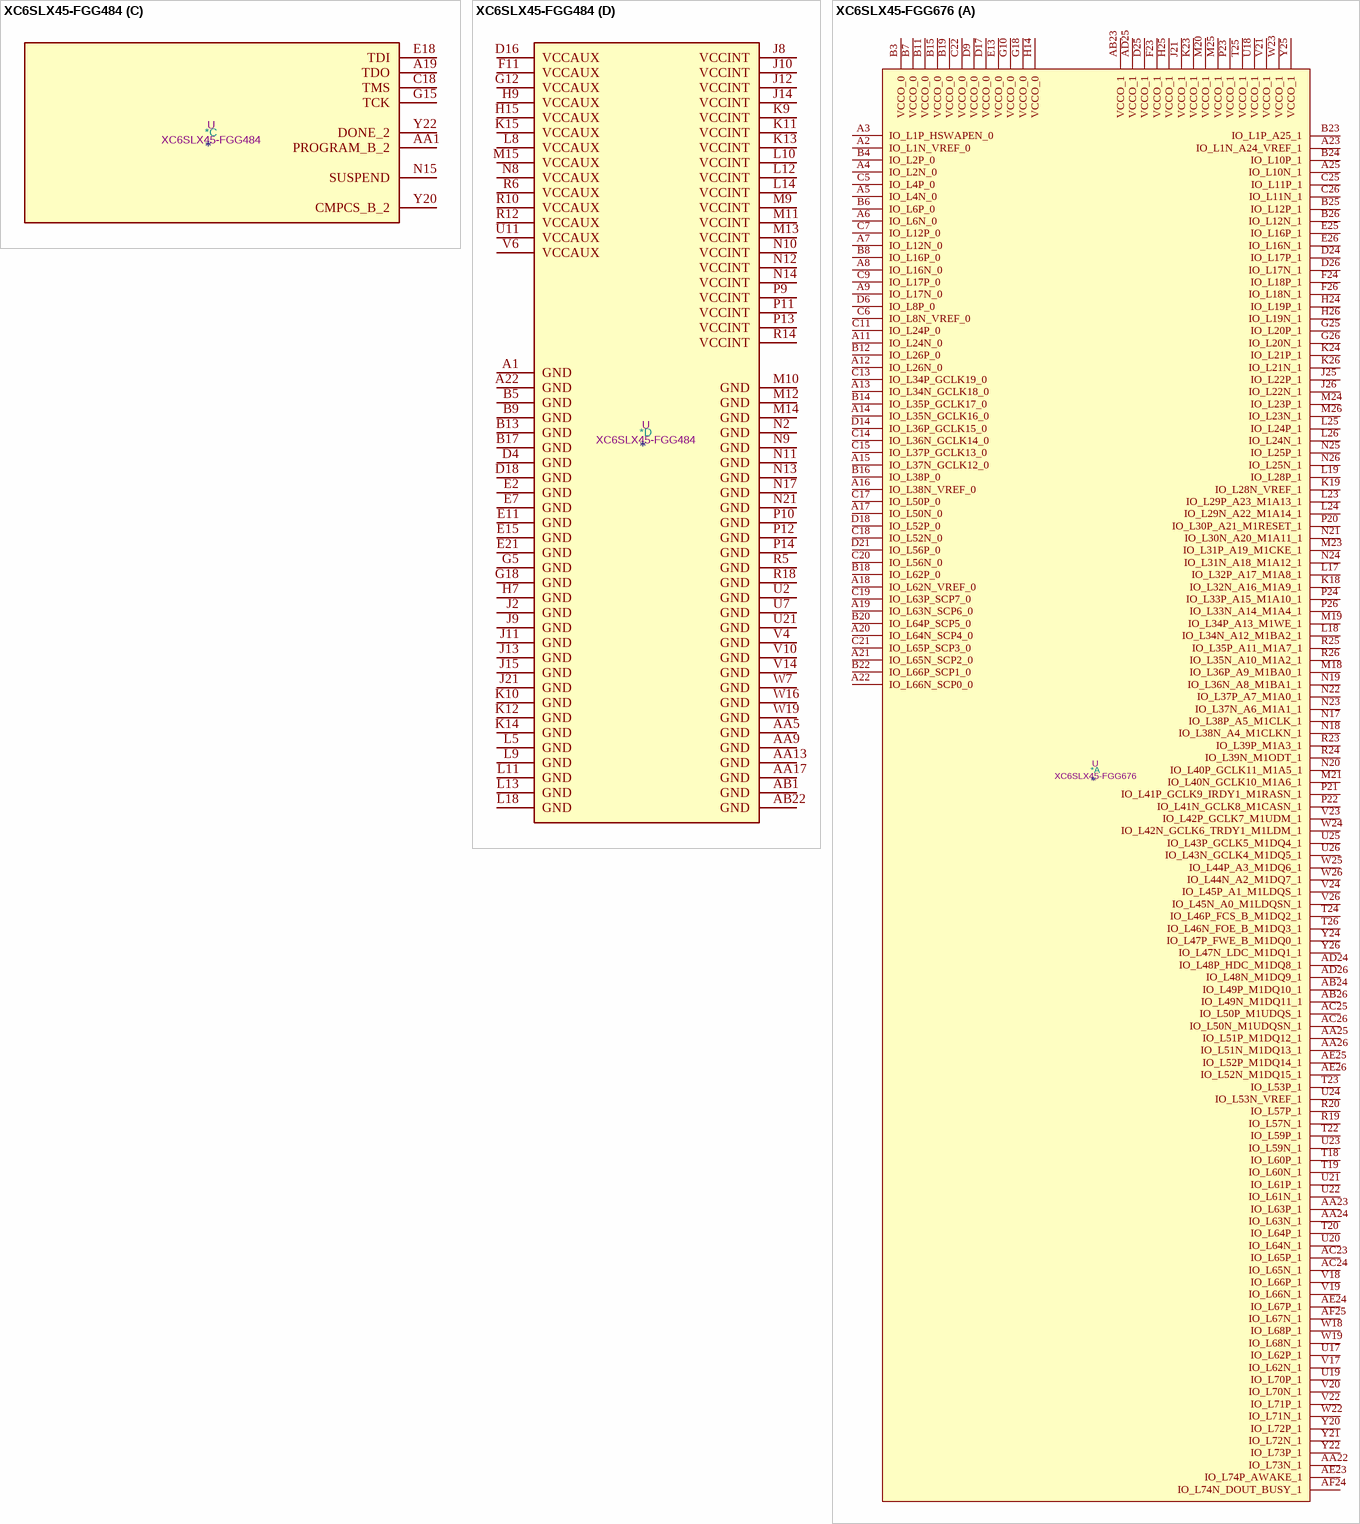
[diagram p20: symbols XC6SLX45-FGG484 to XC6SLX45-FGG676]